# Altium integrated library PLD Supported Devices.IntLib: 344 symbols (part 4 of 6)
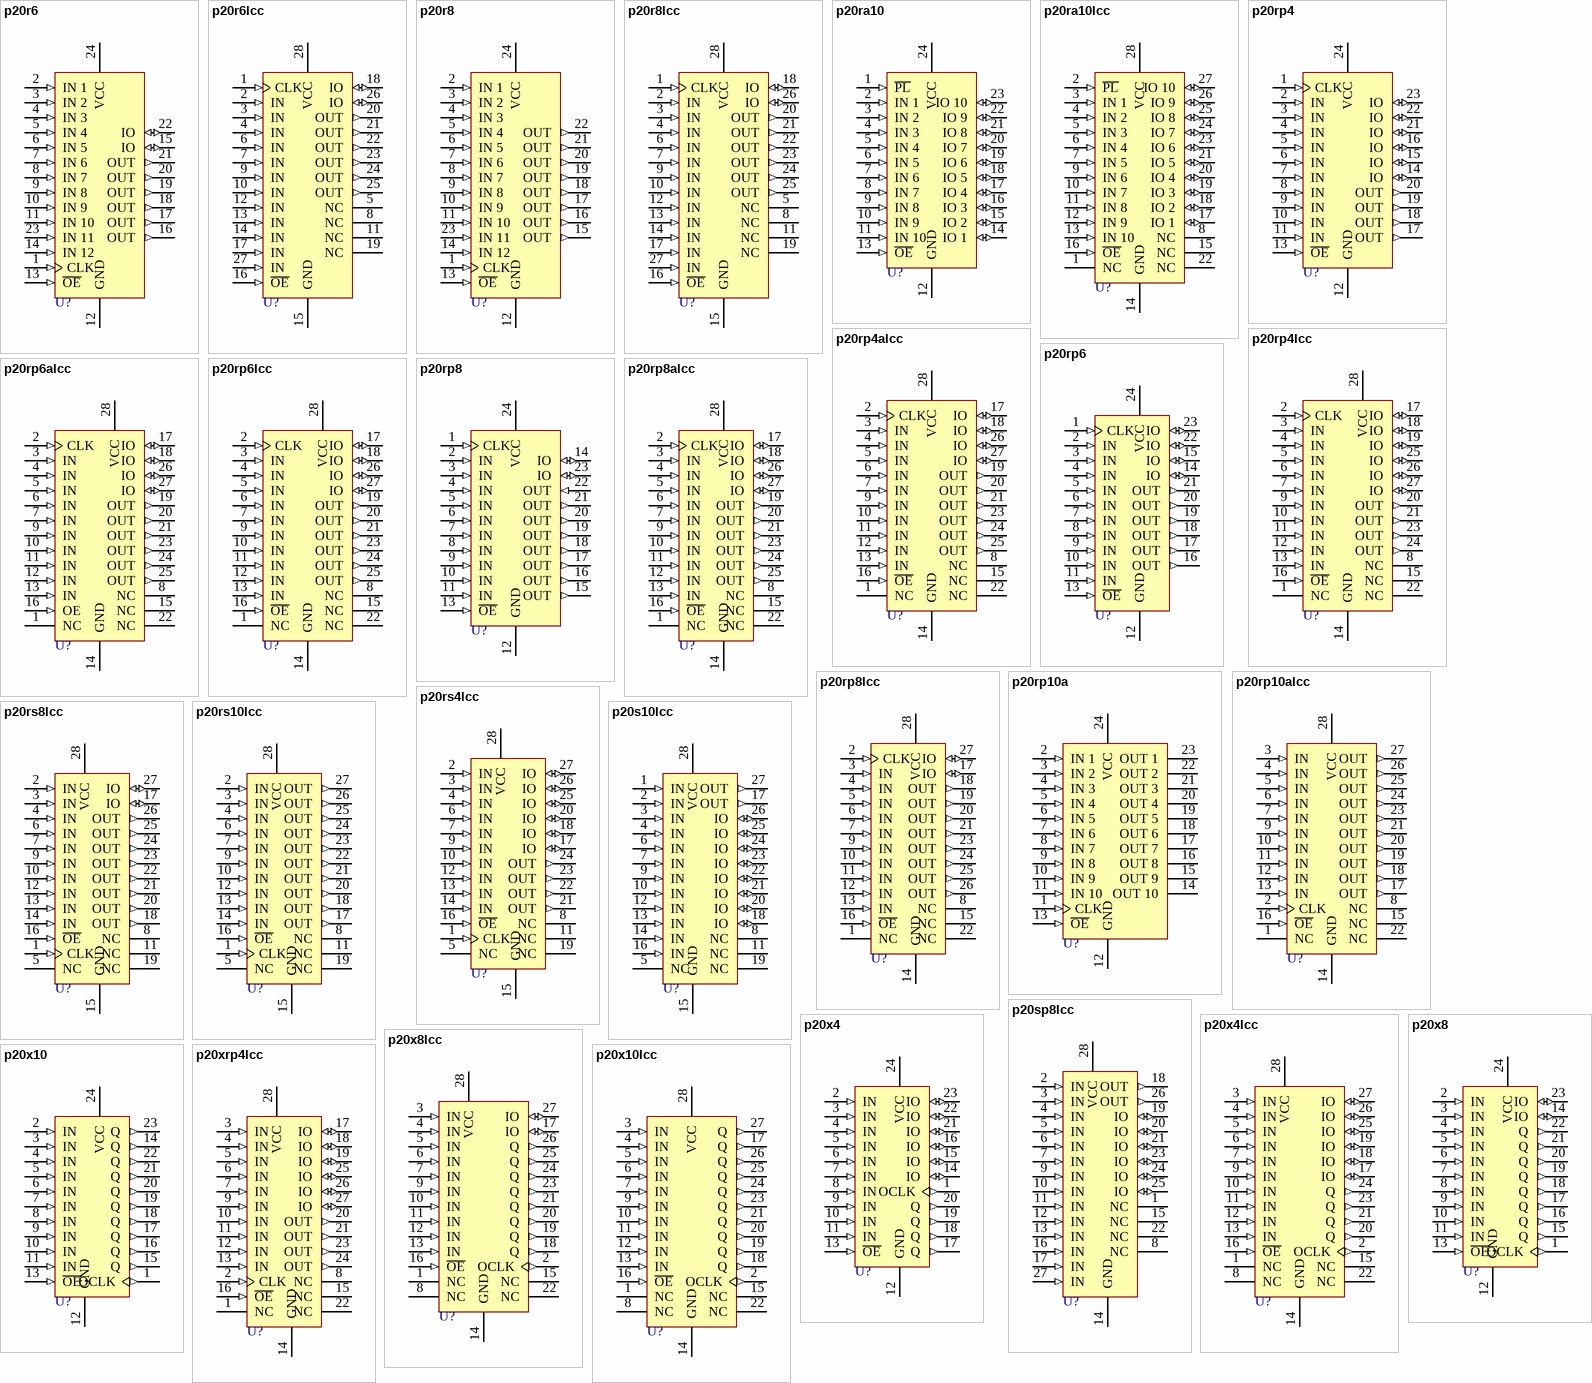
[diagram p21: symbols p20r6 to p20xrp4lcc]

## p20s10lcc
designator U?
Polarity PAL Family; Published: 16-Jul-2002; LatestRevisionDate: 17-Jul-2002; LatestRevisionNote: Re-released for DXP Platform.; Publisher: Altium Limited
pins: 1 IN (in), 2 IN (in), 3 IN (in), 4 IN (in), 5 NC, 6 IN (in), 7 IN (in), 8 NC, 9 IN (in), 10 IN (in), 11 NC, 12 IN (in), 13 IN (in), 14 IN (in), 15 GND (power), 16 IN (in), 17 OUT (out), 18 IO (io), 19 NC, 20 IO (io), 21 IO (io), 22 IO (io), 23 IO (io), 24 IO (io), 25 IO (io), 26 IO (io), 27 OUT (out), 28 VCC (power)

## p20sp8lcc
designator U?
High-Performance Impact PAL Circuits with Product-Term Sharing; Published: 16-Jul-2002; LatestRevisionDate: 17-Jul-2002; LatestRevisionNote: Re-released for DXP Platform.; Publisher: Altium Limited
footprint QCC-J28/X.6
pins: 1 NC, 2 IN (in), 3 IN (in), 4 IN (in), 5 IN (in), 6 IN (in), 7 IN (in), 8 NC, 9 IN (in), 10 IN (in), 11 IN (in), 12 IN (in), 13 IN (in), 14 GND (power), 15 NC, 16 IN (in), 17 IN (in), 18 OUT (out), 19 IO (io), 20 IO (io), 21 IO (io), 22 NC, 23 IO (io), 24 IO (io), 25 IO (io), 26 OUT (out), 27 IN (in), 28 VCC (power)

## p20x4
designator U?
XOR Registered 24-Pin TTL PAL; Published: 16-Jul-2002; LatestRevisionDate: 17-Jul-2002; LatestRevisionNote: Re-released for DXP Platform.; Publisher: Altium Limited
footprint DIP-24/X1.5
pins: 1 OCLK (out), 2 IN (in), 3 IN (in), 4 IN (in), 5 IN (in), 6 IN (in), 7 IN (in), 8 IN (in), 9 IN (in), 10 IN (in), 11 IN (in), 12 GND (power), 13 ~{OE} (in), 14 IO (io), 15 IO (io), 16 IO (io), 17 Q (out), 18 Q (out), 19 Q (out), 20 Q (out), 21 IO (io), 22 IO (io), 23 IO (io), 24 VCC (power)

## p20x4lcc
designator U?
XOR Registered TTL PAL; Published: 16-Jul-2002; LatestRevisionDate: 17-Jul-2002; LatestRevisionNote: Re-released for DXP Platform.; Publisher: Altium Limited
footprint QCC-J28/X.6
pins: 1 NC, 2 OCLK (out), 3 IN (in), 4 IN (in), 5 IN (in), 6 IN (in), 7 IN (in), 8 NC, 9 IN (in), 10 IN (in), 11 IN (in), 12 IN (in), 13 IN (in), 14 GND (power), 15 NC, 16 ~{OE} (in), 17 IO (io), 18 IO (io), 19 IO (io), 20 Q (out), 21 Q (out), 22 NC, 23 Q (out), 24 Q (out), 25 IO (io), 26 IO (io), 27 IO (io), 28 VCC (power)

## p20x8
designator U?
XOR Registered 24-Pin TTL PAL; Published: 16-Jul-2002; LatestRevisionDate: 17-Jul-2002; LatestRevisionNote: Re-released for DXP Platform.; Publisher: Altium Limited
footprint DIP-24/X1.5
pins: 1 OCLK (out), 2 IN (in), 3 IN (in), 4 IN (in), 5 IN (in), 6 IN (in), 7 IN (in), 8 IN (in), 9 IN (in), 10 IN (in), 11 IN (in), 12 GND (power), 13 ~{OE} (in), 14 IO (io), 15 Q (out), 16 Q (out), 17 Q (out), 18 Q (out), 19 Q (out), 20 Q (out), 21 Q (out), 22 Q (out), 23 IO (io), 24 VCC (power)

## p20x8lcc
designator U?
XOR Registered TTL PAL; Published: 16-Jul-2002; LatestRevisionDate: 17-Jul-2002; LatestRevisionNote: Re-released for DXP Platform.; Publisher: Altium Limited
footprint QCC-J28/X.6
pins: 1 NC, 2 OCLK (out), 3 IN (in), 4 IN (in), 5 IN (in), 6 IN (in), 7 IN (in), 8 NC, 9 IN (in), 10 IN (in), 11 IN (in), 12 IN (in), 13 IN (in), 14 GND (power), 15 NC, 16 ~{OE} (in), 17 IO (io), 18 Q (out), 19 Q (out), 20 Q (out), 21 Q (out), 22 NC, 23 Q (out), 24 Q (out), 25 Q (out), 26 Q (out), 27 IO (io), 28 VCC (power)

## p20x10
designator U?
XOR Registered 24-Pin TTL PAL; Published: 16-Jul-2002; LatestRevisionDate: 17-Jul-2002; LatestRevisionNote: Re-released for DXP Platform.; Publisher: Altium Limited
footprint DIP-24/X1.5
pins: 1 OCLK (out), 2 IN (in), 3 IN (in), 4 IN (in), 5 IN (in), 6 IN (in), 7 IN (in), 8 IN (in), 9 IN (in), 10 IN (in), 11 IN (in), 12 GND (power), 13 ~{OE} (in), 14 Q (out), 15 Q (out), 16 Q (out), 17 Q (out), 18 Q (out), 19 Q (out), 20 Q (out), 21 Q (out), 22 Q (out), 23 Q (out), 24 VCC (power)

## p20x10lcc
designator U?
XOR Registered TTL PAL; Published: 16-Jul-2002; LatestRevisionDate: 17-Jul-2002; LatestRevisionNote: Re-released for DXP Platform.; Publisher: Altium Limited
footprint QCC-J28/X.6
pins: 1 NC, 2 OCLK (out), 3 IN (in), 4 IN (in), 5 IN (in), 6 IN (in), 7 IN (in), 8 NC, 9 IN (in), 10 IN (in), 11 IN (in), 12 IN (in), 13 IN (in), 14 GND (power), 15 NC, 16 ~{OE} (in), 17 Q (out), 18 Q (out), 19 Q (out), 20 Q (out), 21 Q (out), 22 NC, 23 Q (out), 24 Q (out), 25 Q (out), 26 Q (out), 27 Q (out), 28 VCC (power)

## p20xrp4lcc
designator U?
24-Pin IMOX Programmable Array Logic; Published: 16-Jul-2002; LatestRevisionDate: 17-Jul-2002; LatestRevisionNote: Re-released for DXP Platform.; Publisher: Altium Limited
pins: 1 NC, 2 CLK (in), 3 IN (in), 4 IN (in), 5 IN (in), 6 IN (in), 7 IN (in), 8 NC, 9 IN (in), 10 IN (in), 11 IN (in), 12 IN (in), 13 IN (in), 14 GND (power), 15 NC, 16 ~{OE} (in), 17 IO (io), 18 IO (io), 19 IO (io), 20 OUT (out), 21 OUT (out), 22 NC, 23 OUT (out), 24 OUT (out), 25 IO (io), 26 IO (io), 27 IO (io), 28 VCC (power)

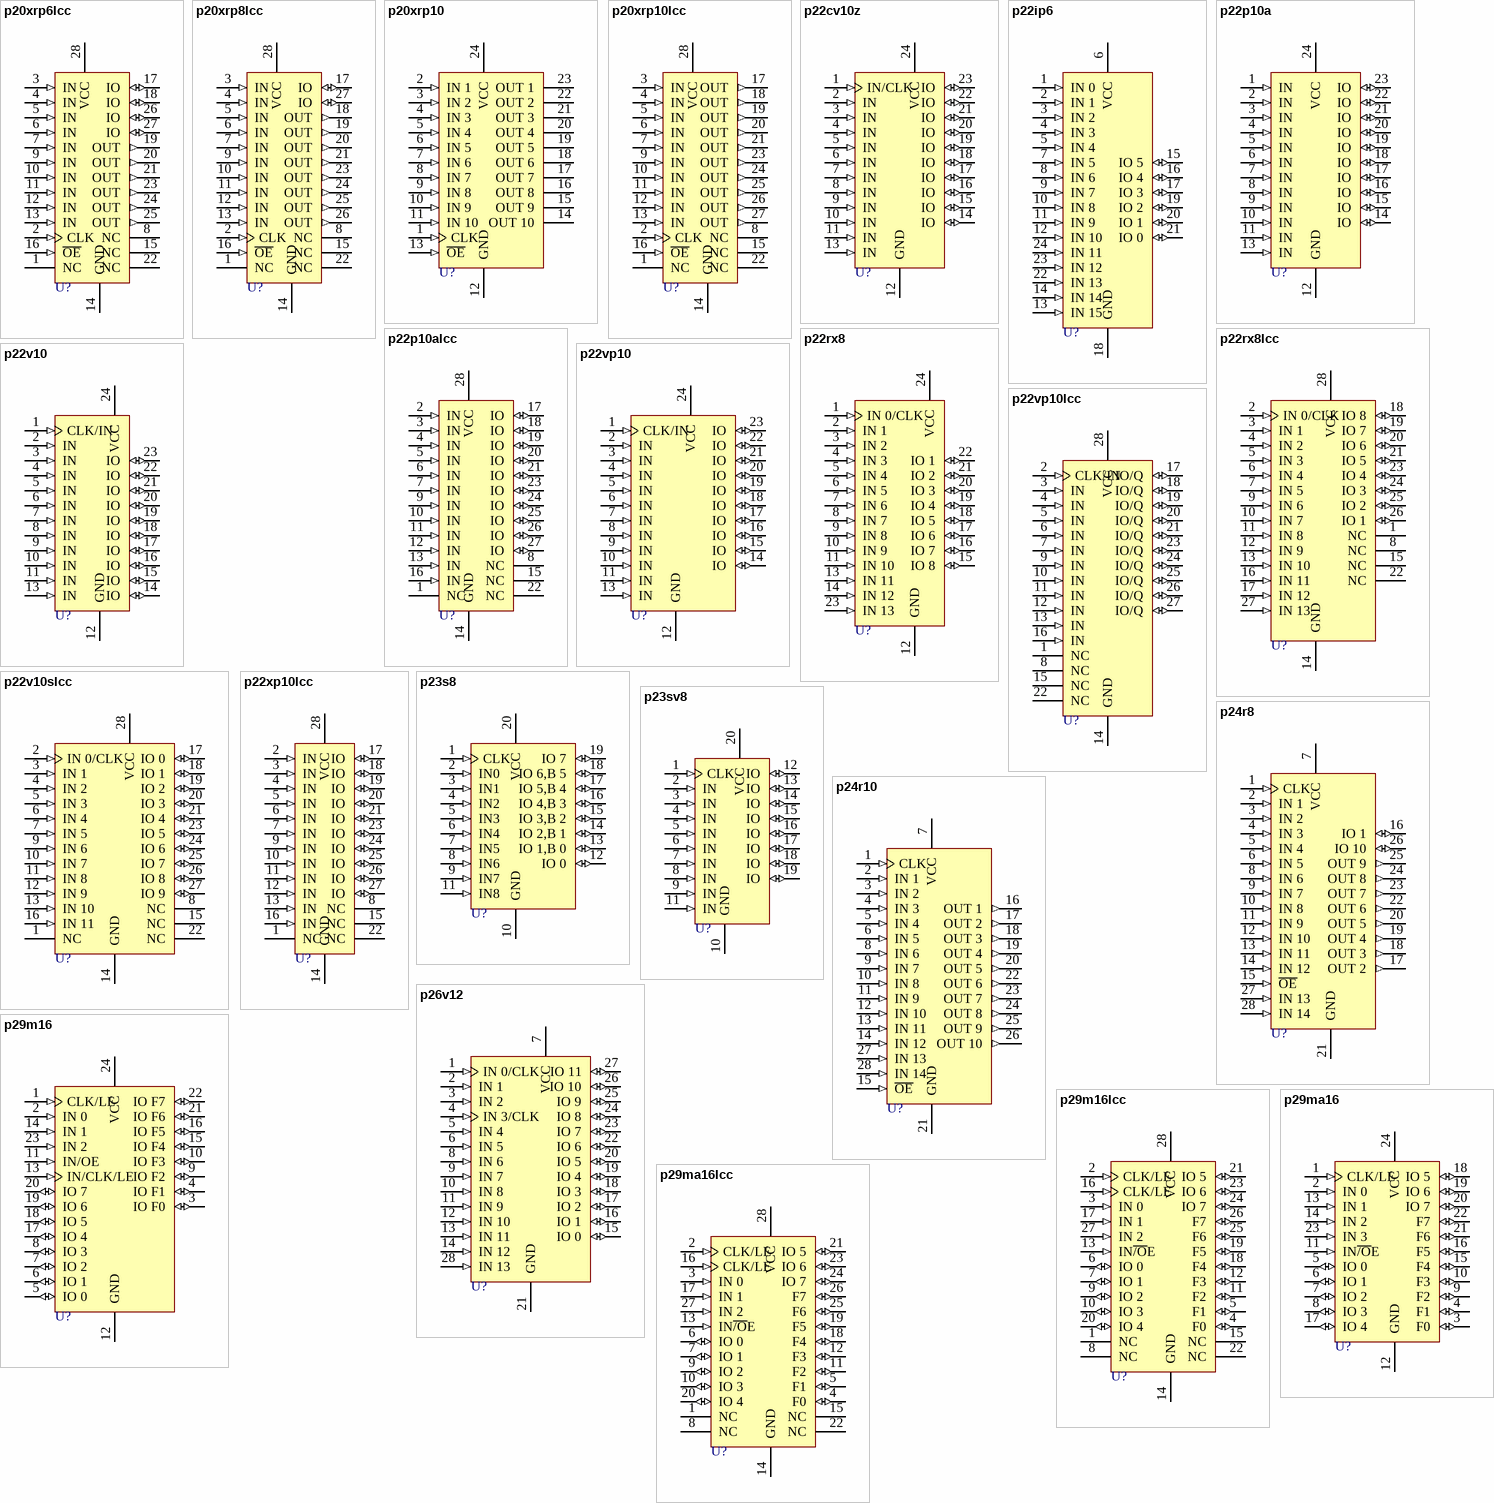
[diagram p11: symbols p20xrp6lcc to p29ma16lcc]

## p20xrp6lcc
designator U?
24-Pin IMOX Programmable Array Logic; Published: 16-Jul-2002; LatestRevisionDate: 17-Jul-2002; LatestRevisionNote: Re-released for DXP Platform.; Publisher: Altium Limited
pins: 1 NC, 2 CLK (in), 3 IN (in), 4 IN (in), 5 IN (in), 6 IN (in), 7 IN (in), 8 NC, 9 IN (in), 10 IN (in), 11 IN (in), 12 IN (in), 13 IN (in), 14 GND (power), 15 NC, 16 ~{OE} (in), 17 IO (io), 18 IO (io), 19 OUT (out), 20 OUT (out), 21 OUT (out), 22 NC, 23 OUT (out), 24 OUT (out), 25 OUT (out), 26 IO (io), 27 IO (io), 28 VCC (power)

## p20xrp8lcc
designator U?
24-Pin IMOX Programmable Array Logic; Published: 16-Jul-2002; LatestRevisionDate: 17-Jul-2002; LatestRevisionNote: Re-released for DXP Platform.; Publisher: Altium Limited
pins: 1 NC, 2 CLK (in), 3 IN (in), 4 IN (in), 5 IN (in), 6 IN (in), 7 IN (in), 8 NC, 9 IN (in), 10 IN (in), 11 IN (in), 12 IN (in), 13 IN (in), 14 GND (power), 15 NC, 16 ~{OE} (in), 17 IO (io), 18 OUT (out), 19 OUT (out), 20 OUT (out), 21 OUT (out), 22 NC, 23 OUT (out), 24 OUT (out), 25 OUT (out), 26 OUT (out), 27 IO (io), 28 VCC (power)

## p20xrp10
designator U?
24-Pin IMOX PAL Elements; Published: 16-Jul-2002; LatestRevisionDate: 17-Jul-2002; LatestRevisionNote: Re-released for DXP Platform.; Publisher: Altium Limited
pins: 1 CLK (in), 2 IN 1 (in), 3 IN 2 (in), 4 IN 3 (in), 5 IN 4 (in), 6 IN 5 (in), 7 IN 6 (in), 8 IN 7 (in), 9 IN 8 (in), 10 IN 9 (in), 11 IN 10 (in), 12 GND (power), 13 ~{OE} (in), 14 OUT 10 (hiz), 15 OUT 9 (hiz), 16 OUT 8 (hiz), 17 OUT 7 (hiz), 18 OUT 6 (hiz), 19 OUT 5 (hiz), 20 OUT 4 (hiz), 21 OUT 3 (hiz), 22 OUT 2 (hiz), 23 OUT 1 (hiz), 24 VCC (power)

## p20xrp10lcc
designator U?
24-Pin IMOX Programmable Array Logic; Published: 16-Jul-2002; LatestRevisionDate: 17-Jul-2002; LatestRevisionNote: Re-released for DXP Platform.; Publisher: Altium Limited
pins: 1 NC, 2 CLK (in), 3 IN (in), 4 IN (in), 5 IN (in), 6 IN (in), 7 IN (in), 8 NC, 9 IN (in), 10 IN (in), 11 IN (in), 12 IN (in), 13 IN (in), 14 GND (power), 15 NC, 16 ~{OE} (in), 17 OUT (out), 18 OUT (out), 19 OUT (out), 20 OUT (out), 21 OUT (out), 22 NC, 23 OUT (out), 24 OUT (out), 25 OUT (out), 26 OUT (out), 27 OUT (out), 28 VCC (power)

## p22cv10z
designator U?
24-Pin TTL Versatile PAL Device; Published: 16-Jul-2002; LatestRevisionDate: 17-Jul-2002; LatestRevisionNote: Re-released for DXP Platform.; Publisher: Altium Limited
footprint DIP-24/X1.5
pins: 1 IN/CLK (in), 2 IN (in), 3 IN (in), 4 IN (in), 5 IN (in), 6 IN (in), 7 IN (in), 8 IN (in), 9 IN (in), 10 IN (in), 11 IN (in), 12 GND (power), 13 IN (in), 14 IO (io), 15 IO (io), 16 IO (io), 17 IO (io), 18 IO (io), 19 IO (io), 20 IO (io), 21 IO (io), 22 IO (io), 23 IO (io), 24 VCC (power)

## p22ip6
designator U?
Interface Protocol Asyn. Cell (IPAC) PAL Device; Published: 16-Jul-2002; LatestRevisionDate: 17-Jul-2002; LatestRevisionNote: Re-released for DXP Platform.; Publisher: Altium Limited
pins: 1 IN 0 (in), 2 IN 1 (in), 3 IN 2 (in), 4 IN 3 (in), 5 IN 4 (in), 6 VCC (power), 7 IN 5 (in), 8 IN 6 (in), 9 IN 7 (in), 10 IN 8 (in), 11 IN 9 (in), 12 IN 10 (in), 13 IN 15 (in), 14 IN 14 (in), 15 IO 5 (io), 16 IO 4 (io), 17 IO 3 (io), 18 GND (power), 19 IO 2 (io), 20 IO 1 (io), 21 IO 0 (io), 22 IN 13 (in), 23 IN 12 (in), 24 IN 11 (in)

## p22p10a
designator U?
24-Pin Combinational TTL PAL; Published: 16-Jul-2002; LatestRevisionDate: 17-Jul-2002; LatestRevisionNote: Re-released for DXP Platform.; Publisher: Altium Limited
pins: 1 IN (in), 2 IN (in), 3 IN (in), 4 IN (in), 5 IN (in), 6 IN (in), 7 IN (in), 8 IN (in), 9 IN (in), 10 IN (in), 11 IN (in), 12 GND (power), 13 IN (in), 14 IO (io), 15 IO (io), 16 IO (io), 17 IO (io), 18 IO (io), 19 IO (io), 20 IO (io), 21 IO (io), 22 IO (io), 23 IO (io), 24 VCC (power)

## p22p10alcc
designator U?
24-Pin Combinational TTL PAL; Published: 16-Jul-2002; LatestRevisionDate: 17-Jul-2002; LatestRevisionNote: Re-released for DXP Platform.; Publisher: Altium Limited
pins: 1 NC, 2 IN (in), 3 IN (in), 4 IN (in), 5 IN (in), 6 IN (in), 7 IN (in), 8 NC, 9 IN (in), 10 IN (in), 11 IN (in), 12 IN (in), 13 IN (in), 14 GND (power), 15 NC, 16 IN (in), 17 IO (io), 18 IO (io), 19 IO (io), 20 IO (io), 21 IO (io), 22 NC, 23 IO (io), 24 IO (io), 25 IO (io), 26 IO (io), 27 IO (io), 28 VCC (power)

## p22rx8
designator U?
High-Speed PAL; Published: 16-Jul-2002; LatestRevisionDate: 17-Jul-2002; LatestRevisionNote: Re-released for DXP Platform.; Publisher: Altium Limited
pins: 1 IN 0/CLK (in), 2 IN 1 (in), 3 IN 2 (in), 4 IN 3 (in), 5 IN 4 (in), 6 IN 5 (in), 7 IN 6 (in), 8 IN 7 (in), 9 IN 8 (in), 10 IN 9 (in), 11 IN 10 (in), 12 GND (power), 13 IN 11 (in), 14 IN 12 (in), 15 IO 8 (io), 16 IO 7 (io), 17 IO 6 (io), 18 IO 5 (io), 19 IO 4 (io), 20 IO 3 (io), 21 IO 2 (io), 22 IO 1 (io), 23 IN 13 (in), 24 VCC (power)

## p22rx8lcc
designator U?
High-Speed Programmable Array Logic; Published: 16-Jul-2002; LatestRevisionDate: 17-Jul-2002; LatestRevisionNote: Re-released for DXP Platform.; Publisher: Altium Limited
pins: 1 NC, 2 IN 0/CLK (in), 3 IN 1 (in), 4 IN 2 (in), 5 IN 3 (in), 6 IN 4 (in), 7 IN 5 (in), 8 NC, 9 IN 6 (in), 10 IN 7 (in), 11 IN 8 (in), 12 IN 9 (in), 13 IN 10 (in), 14 GND (power), 15 NC, 16 IN 11 (in), 17 IN 12 (in), 18 IO 8 (io), 19 IO 7 (io), 20 IO 6 (io), 21 IO 5 (io), 22 NC, 23 IO 4 (io), 24 IO 3 (io), 25 IO 2 (io), 26 IO 1 (io), 27 IN 13 (in), 28 VCC (power)

## p22v10
designator U?
24-Pin TTL Versatile PAL Device; Published: 16-Jul-2002; LatestRevisionDate: 17-Jul-2002; LatestRevisionNote: Re-released for DXP Platform.; Publisher: Altium Limited
footprint DIP-24/X1.5
pins: 1 CLK/IN (in), 2 IN (in), 3 IN (in), 4 IN (in), 5 IN (in), 6 IN (in), 7 IN (in), 8 IN (in), 9 IN (in), 10 IN (in), 11 IN (in), 12 GND (power), 13 IN (in), 14 IO (io), 15 IO (io), 16 IO (io), 17 IO (io), 18 IO (io), 19 IO (io), 20 IO (io), 21 IO (io), 22 IO (io), 23 IO (io), 24 VCC (power)

## p22v10slcc
designator U?
TTL Versatile PAL Device; Published: 16-Jul-2002; LatestRevisionDate: 17-Jul-2002; LatestRevisionNote: Re-released for DXP Platform.; Publisher: Altium Limited
footprint QCC-J28/X.6
pins: 1 NC, 2 IN 0/CLK (in), 3 IN 1 (in), 4 IN 2 (in), 5 IN 3 (in), 6 IN 4 (in), 7 IN 5 (in), 8 NC, 9 IN 6 (in), 10 IN 7 (in), 11 IN 8 (in), 12 IN 9 (in), 13 IN 10 (in), 14 GND (power), 15 NC, 16 IN 11 (in), 17 IO 0 (io), 18 IO 1 (io), 19 IO 2 (io), 20 IO 3 (io), 21 IO 4 (io), 22 NC, 23 IO 5 (io), 24 IO 6 (io), 25 IO 7 (io), 26 IO 8 (io), 27 IO 9 (io), 28 VCC (power)

## p22vp10
designator U?
Programmable Array Logic Device; Published: 16-Jul-2002; LatestRevisionDate: 17-Jul-2002; LatestRevisionNote: Re-released for DXP Platform.; Publisher: Altium Limited
pins: 1 CLK/IN (in), 2 IN (in), 3 IN (in), 4 IN (in), 5 IN (in), 6 IN (in), 7 IN (in), 8 IN (in), 9 IN (in), 10 IN (in), 11 IN (in), 12 GND (power), 13 IN (in), 14 IO (io), 15 IO (io), 16 IO (io), 17 IO (io), 18 IO (io), 19 IO (io), 20 IO (io), 21 IO (io), 22 IO (io), 23 IO (io), 24 VCC (power)

## p22vp10lcc
designator U?
High-Performance Impact-X Programmable Array Logic Circuits; Published: 16-Jul-2002; LatestRevisionDate: 17-Jul-2002; LatestRevisionNote: Re-released for DXP Platform.; Publisher: Altium Limited
footprint QCC-J28/X.6
pins: 1 NC, 2 CLK/IN (in), 3 IN (in), 4 IN (in), 5 IN (in), 6 IN (in), 7 IN (in), 8 NC, 9 IN (in), 10 IN (in), 11 IN (in), 12 IN (in), 13 IN (in), 14 GND (power), 15 NC, 16 IN (in), 17 IO/Q (io), 18 IO/Q (io), 19 IO/Q (io), 20 IO/Q (io), 21 IO/Q (io), 22 NC, 23 IO/Q (io), 24 IO/Q (io), 25 IO/Q (io), 26 IO/Q (io), 27 IO/Q (io), 28 VCC (power)

## p22xp10lcc
designator U?
24-Pin IMOX Programmable Array Logic; Published: 16-Jul-2002; LatestRevisionDate: 17-Jul-2002; LatestRevisionNote: Re-released for DXP Platform.; Publisher: Altium Limited
pins: 1 NC, 2 IN (in), 3 IN (in), 4 IN (in), 5 IN (in), 6 IN (in), 7 IN (in), 8 NC, 9 IN (in), 10 IN (in), 11 IN (in), 12 IN (in), 13 IN (in), 14 GND (power), 15 NC, 16 IN (in), 17 IO (io), 18 IO (io), 19 IO (io), 20 IO (io), 21 IO (io), 22 NC, 23 IO (io), 24 IO (io), 25 IO (io), 26 IO (io), 27 IO (io), 28 VCC (power)

## p23s8
designator U?
20-Pin PAL Device-Based Sequencer; Published: 16-Jul-2002; LatestRevisionDate: 17-Jul-2002; LatestRevisionNote: Re-released for DXP Platform.; Publisher: Altium Limited
pins: 1 CLK (in), 2 IN0 (in), 3 IN1 (in), 4 IN2 (in), 5 IN3 (in), 6 IN4 (in), 7 IN5 (in), 8 IN6 (in), 9 IN7 (in), 10 GND (power), 11 IN8 (in), 12 IO 0 (io), 13 IO 1,B 0 (io), 14 IO 2,B 1 (io), 15 IO 3,B 2 (io), 16 IO 4,B 3 (io), 17 IO 5,B 4 (io), 18 IO 6,B 5 (io), 19 IO 7 (io), 20 VCC (power)

## p23sv8
designator U?
High-Performance Logic Device Gallium Arsenide; Published: 16-Jul-2002; LatestRevisionDate: 17-Jul-2002; LatestRevisionNote: Re-released for DXP Platform.; Publisher: Altium Limited
pins: 1 CLK (in), 2 IN (in), 3 IN (in), 4 IN (in), 5 IN (in), 6 IN (in), 7 IN (in), 8 IN (in), 9 IN (in), 10 GND (power), 11 IN (in), 12 IO (io), 13 IO (io), 14 IO (io), 15 IO (io), 16 IO (io), 17 IO (io), 18 IO (io), 19 IO (io), 20 VCC (power)

## p24r8
designator U?
10ns 28-Pin TTL PAL; Published: 16-Jul-2002; LatestRevisionDate: 17-Jul-2002; LatestRevisionNote: Re-released for DXP Platform.; Publisher: Altium Limited
pins: 1 CLK (in), 2 IN 1 (in), 3 IN 2 (in), 4 IN 3 (in), 5 IN 4 (in), 6 IN 5 (in), 7 VCC (power), 8 IN 6 (in), 9 IN 7 (in), 10 IN 8 (in), 11 IN 9 (in), 12 IN 10 (in), 13 IN 11 (in), 14 IN 12 (in), 15 ~{OE} (in), 16 IO 1 (io), 17 OUT 2 (out), 18 OUT 3 (out), 19 OUT 4 (out), 20 OUT 5 (out), 21 GND (power), 22 OUT 6 (out), 23 OUT 7 (out), 24 OUT 8 (out), 25 OUT 9 (out), 26 IO 10 (io), 27 IN 13 (in), 28 IN 14 (in)

## p24r10
designator U?
10ns 28-Pin TTL Programmable Array Logic; Published: 16-Jul-2002; LatestRevisionDate: 17-Jul-2002; LatestRevisionNote: Re-released for DXP Platform.; Publisher: Altium Limited
pins: 1 CLK (in), 2 IN 1 (in), 3 IN 2 (in), 4 IN 3 (in), 5 IN 4 (in), 6 IN 5 (in), 7 VCC (power), 8 IN 6 (in), 9 IN 7 (in), 10 IN 8 (in), 11 IN 9 (in), 12 IN 10 (in), 13 IN 11 (in), 14 IN 12 (in), 15 ~{OE} (in), 16 OUT 1 (out), 17 OUT 2 (out), 18 OUT 3 (out), 19 OUT 4 (out), 20 OUT 5 (out), 21 GND (power), 22 OUT 6 (out), 23 OUT 7 (out), 24 OUT 8 (out), 25 OUT 9 (out), 26 OUT 10 (out), 27 IN 13 (in), 28 IN 14 (in)

## p26v12
designator U?
28-Pin EE CMOS Versatile PAL Device; Published: 16-Jul-2002; LatestRevisionDate: 17-Jul-2002; LatestRevisionNote: Re-released for DXP Platform.; Publisher: Altium Limited
footprint QCC-J28/X.6
pins: 1 IN 0/CLK (in), 2 IN 1 (in), 3 IN 2 (in), 4 IN 3/CLK (in), 5 IN 4 (in), 6 IN 5 (in), 7 VCC (power), 8 IN 6 (in), 9 IN 7 (in), 10 IN 8 (in), 11 IN 9 (in), 12 IN 10 (in), 13 IN 11 (in), 14 IN 12 (in), 15 IO 0 (io), 16 IO 1 (io), 17 IO 2 (io), 18 IO 3 (io), 19 IO 4 (io), 20 IO 5 (io), 21 GND (power), 22 IO 6 (io), 23 IO 7 (io), 24 IO 8 (io), 25 IO 9 (io), 26 IO 10 (io), 27 IO 11 (io), 28 IN 13 (in)

## p29m16
designator U?
24-Pin EE CMOS (PAL); Published: 16-Jul-2002; LatestRevisionDate: 17-Jul-2002; LatestRevisionNote: Re-released for DXP Platform.; Publisher: Altium Limited
footprint DIP-24/X1.5
pins: 1 CLK/LE (in), 2 IN 0 (in), 3 IO F0 (io), 4 IO F1 (io), 5 IO 0 (io), 6 IO 1 (io), 7 IO 2 (io), 8 IO 3 (io), 9 IO F2 (io), 10 IO F3 (io), 11 IN/OE (in), 12 GND (power), 13 IN/CLK/LE (in), 14 IN 1 (in), 15 IO F4 (io), 16 IO F5 (io), 17 IO 4 (io), 18 IO 5 (io), 19 IO 6 (io), 20 IO 7 (io), 21 IO F6 (io), 22 IO F7 (io), 23 IN 2 (in), 24 VCC (power)

## p29m16lcc
designator U?
EE CMOS PAL; Published: 16-Jul-2002; LatestRevisionDate: 17-Jul-2002; LatestRevisionNote: Re-released for DXP Platform.; Publisher: Altium Limited
footprint QCC-J28/X.6
pins: 1 NC, 2 CLK/LE (in), 3 IN 0 (in), 4 F0 (io), 5 F1 (io), 6 IO 0 (io), 7 IO 1 (io), 8 NC, 9 IO 2 (io), 10 IO 3 (io), 11 F2 (io), 12 F3 (io), 13 IN~{/O}E (in), 14 GND (power), 15 NC, 16 CLK/LE (in), 17 IN 1 (in), 18 F4 (io), 19 F5 (io), 20 IO 4 (io), 21 IO 5 (io), 22 NC, 23 IO 6 (io), 24 IO 7 (io), 25 F6 (io), 26 F7 (io), 27 IN 2 (in), 28 VCC (power)

## p29ma16
designator U?
24-Pin EE CMOS PAL; Published: 16-Jul-2002; LatestRevisionDate: 17-Jul-2002; LatestRevisionNote: Re-released for DXP Platform.; Publisher: Altium Limited
footprint DIP-24/X1.5
pins: 1 CLK/LE (in), 2 IN 0 (in), 3 F0 (io), 4 F1 (io), 5 IO 0 (io), 6 IO 1 (io), 7 IO 2 (io), 8 IO 3 (io), 9 F2 (io), 10 F3 (io), 11 IN~{/O}E (in), 12 GND (power), 13 IN 1 (in), 14 IN 2 (in), 15 F4 (io), 16 F5 (io), 17 IO 4 (io), 18 IO 5 (io), 19 IO 6 (io), 20 IO 7 (io), 21 F6 (io), 22 F7 (io), 23 IN 3 (in), 24 VCC (power)

## p29ma16lcc
designator U?
EE CMOS PAL; Published: 16-Jul-2002; LatestRevisionDate: 17-Jul-2002; LatestRevisionNote: Re-released for DXP Platform.; Publisher: Altium Limited
footprint QCC-J28/X.6
pins: 1 NC, 2 CLK/LE (in), 3 IN 0 (in), 4 F0 (io), 5 F1 (io), 6 IO 0 (io), 7 IO 1 (io), 8 NC, 9 IO 2 (io), 10 IO 3 (io), 11 F2 (io), 12 F3 (io), 13 IN~{/O}E (in), 14 GND (power), 15 NC, 16 CLK/LE (in), 17 IN 1 (in), 18 F4 (io), 19 F5 (io), 20 IO 4 (io), 21 IO 5 (io), 22 NC, 23 IO 6 (io), 24 IO 7 (io), 25 F6 (io), 26 F7 (io), 27 IN 2 (in), 28 VCC (power)

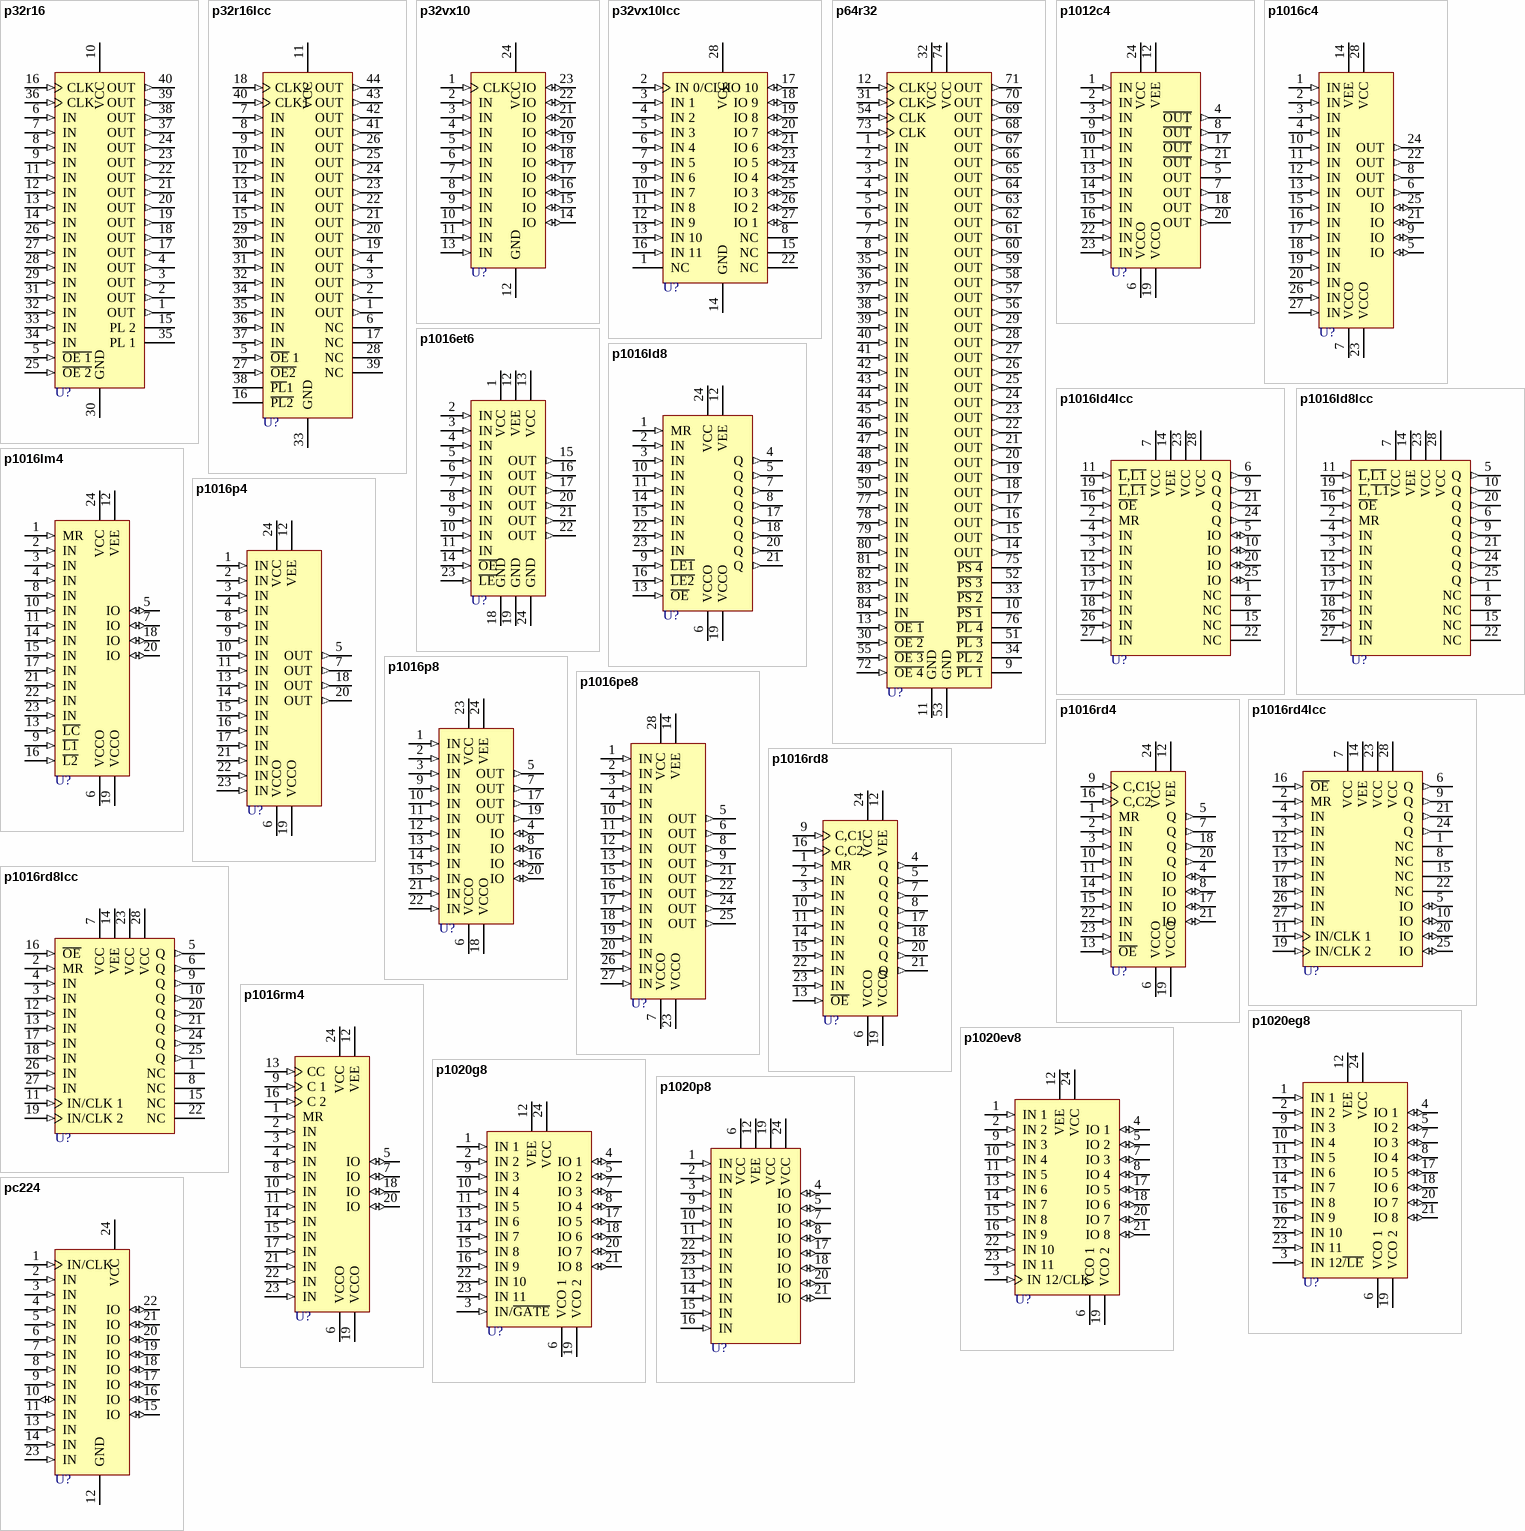
[diagram p12: symbols p32r16 to pc224]

## p32r16
designator U?
High-Density Programmable Logic MEGAPAL Device; Published: 16-Jul-2002; LatestRevisionDate: 17-Jul-2002; LatestRevisionNote: Re-released for DXP Platform.; Publisher: Altium Limited
pins: 1 OUT (out), 2 OUT (out), 3 OUT (out), 4 OUT (out), 5 ~{OE 1} (in), 6 IN (in), 7 IN (in), 8 IN (in), 9 IN (in), 10 VCC (power), 11 IN (in), 12 IN (in), 13 IN (in), 14 IN (in), 15 PL 2, 16 CLK (in), 17 OUT (out), 18 OUT (out), 19 OUT (out), 20 OUT (out), 21 OUT (out), 22 OUT (out), 23 OUT (out), 24 OUT (out), 25 ~{OE 2} (in), 26 IN (in), 27 IN (in), 28 IN (in), 29 IN (in), 30 GND (power), 31 IN (in), 32 IN (in), 33 IN (in), 34 IN (in), 35 PL 1, 36 CLK (in), 37 OUT (out), 38 OUT (out), 39 OUT (out), 40 OUT (out)

## p32r16lcc
designator U?
High-Density Programmable Logic MEGAPAL Device; Published: 16-Jul-2002; LatestRevisionDate: 17-Jul-2002; LatestRevisionNote: Re-released for DXP Platform.; Publisher: Altium Limited
footprint QCC-J44
pins: 1 OUT (out), 2 OUT (out), 3 OUT (out), 4 OUT (out), 5 ~{OE} 1 (in), 6 NC, 7 IN (in), 8 IN (in), 9 IN (in), 10 IN (in), 11 VCC (power), 12 IN (in), 13 IN (in), 14 IN (in), 15 IN (in), 16 ~{PL2}, 17 NC, 18 CLK2 (in), 19 OUT (out), 20 OUT (out), 21 OUT (out), 22 OUT (out), 23 OUT (out), 24 OUT (out), 25 OUT (out), 26 OUT (out), 27 ~{OE2} (in), 28 NC, 29 IN (in), 30 IN (in), 31 IN (in), 32 IN (in), 33 GND (power), 34 IN (in), 35 IN (in), 36 IN (in), 37 IN (in), 38 ~{PL}1, 39 NC, 40 CLK1 (in), 41 OUT (out), 42 OUT (out), 43 OUT (out), 44 OUT (out)

## p32vx10
designator U?
24-Pin Versatile with XOR PAL; Published: 16-Jul-2002; LatestRevisionDate: 17-Jul-2002; LatestRevisionNote: Re-released for DXP Platform.; Publisher: Altium Limited
pins: 1 CLK (in), 2 IN (in), 3 IN (in), 4 IN (in), 5 IN (in), 6 IN (in), 7 IN (in), 8 IN (in), 9 IN (in), 10 IN (in), 11 IN (in), 12 GND (power), 13 IN (in), 14 IO (io), 15 IO (io), 16 IO (io), 17 IO (io), 18 IO (io), 19 IO (io), 20 IO (io), 21 IO (io), 22 IO (io), 23 IO (io), 24 VCC (power)

## p32vx10lcc
designator U?
24-Pin Versatile with XOR Programmable Array Logic; Published: 16-Jul-2002; LatestRevisionDate: 17-Jul-2002; LatestRevisionNote: Re-released for DXP Platform.; Publisher: Altium Limited
pins: 1 NC, 2 IN 0/CLK (in), 3 IN 1 (in), 4 IN 2 (in), 5 IN 3 (in), 6 IN 4 (in), 7 IN 5 (in), 8 NC, 9 IN 6 (in), 10 IN 7 (in), 11 IN 8 (in), 12 IN 9 (in), 13 IN 10 (in), 14 GND (power), 15 NC, 16 IN 11 (in), 17 IO 10 (io), 18 IO 9 (io), 19 IO 8 (io), 20 IO 7 (io), 21 IO 6 (io), 22 NC, 23 IO 5 (io), 24 IO 4 (io), 25 IO 3 (io), 26 IO 2 (io), 27 IO 1 (io), 28 VCC (power)

## p64r32
designator U?
High-Density Programmable Logic Mega PAL Device; Published: 16-Jul-2002; LatestRevisionDate: 17-Jul-2002; LatestRevisionNote: Re-released for DXP Platform.; Publisher: Altium Limited
pins: 1 IN (in), 2 IN (in), 3 IN (in), 4 IN (in), 5 IN (in), 6 IN (in), 7 IN (in), 8 IN (in), 9 ~{PL 1}, 10 ~{PS 1}, 11 GND (power), 12 CLK (in), 13 ~{OE 1} (in), 14 OUT (out), 15 OUT (out), 16 OUT (out), 17 OUT (out), 18 OUT (out), 19 OUT (out), 20 OUT (out), 21 OUT (out), 22 OUT (out), 23 OUT (out), 24 OUT (out), 25 OUT (out), 26 OUT (out), 27 OUT (out), 28 OUT (out), 29 OUT (out), 30 ~{OE 2} (in), 31 CLK (in), 32 VCC (power), 33 ~{PS 2}, 34 ~{PL 2}, 35 IN (in), 36 IN (in), 37 IN (in), 38 IN (in), 39 IN (in), 40 IN (in), 41 IN (in), 42 IN (in), 43 IN (in), 44 IN (in), 45 IN (in), 46 IN (in), 47 IN (in), 48 IN (in), 49 IN (in), 50 IN (in), 51 ~{PL 3}, 52 ~{PS 3}, 53 GND (power), 54 CLK (in), 55 ~{OE 3} (in), 56 OUT (out), 57 OUT (out), 58 OUT (out), 59 OUT (out), 60 OUT (out), 61 OUT (out), 62 OUT (out), 63 OUT (out), 64 OUT (out), 65 OUT (out), 66 OUT (out), 67 OUT (out), 68 OUT (out), 69 OUT (out), 70 OUT (out), 71 OUT (out), 72 ~{OE 4} (in), 73 CLK (in), 74 VCC (power), 75 ~{PS 4}, 76 ~{PL 4}, 77 IN (in), 78 IN (in), 79 IN (in), 80 IN (in), 81 IN (in), 82 IN (in), 83 IN (in), 84 IN (in)

## p1012c4
designator U?
4ns ECL Programmable Array Logic; Published: 16-Jul-2002; LatestRevisionDate: 17-Jul-2002; LatestRevisionNote: Re-released for DXP Platform.; Publisher: Altium Limited
footprint DIP-24/X1.5
pins: 1 IN (in), 2 IN (in), 3 IN (in), 4 ~{OUT} (out), 5 OUT (power), 6 VCCO (power), 7 OUT (out), 8 ~{OUT} (out), 9 IN (in), 10 IN (in), 11 IN (in), 12 VEE (power), 13 IN (in), 14 IN (in), 15 IN (in), 16 IN (in), 17 ~{OUT} (out), 18 OUT (out), 19 VCCO (power), 20 OUT (out), 21 ~{OUT} (out), 22 IN (in), 23 IN (in), 24 VCC (power)

## p1016c4
designator U?
2ns ECL Aspect Programmable Array Logic; Published: 16-Jul-2002; LatestRevisionDate: 17-Jul-2002; LatestRevisionNote: Re-released for DXP Platform.; Publisher: Altium Limited
footprint DIP-28/D38.1
pins: 1 IN (in), 2 IN (in), 3 IN (in), 4 IN (in), 5 IO (io), 6 OUT (out), 7 VCCO (power), 8 OUT (out), 9 IO (io), 10 IN (in), 11 IN (in), 12 IN (in), 13 IN (in), 14 VEE (power), 15 IN (in), 16 IN (in), 17 IN (in), 18 IN (in), 19 IN (in), 20 IN (in), 21 IO (io), 22 OUT (out), 23 VCCO (power), 24 OUT (out), 25 IO (io), 26 IN (in), 27 IN (in), 28 VCC (power)

## p1016et6
designator U?
ECL-To-TTL Impact-X PAL Translator Circuit; Published: 16-Jul-2002; LatestRevisionDate: 17-Jul-2002; LatestRevisionNote: Re-released for DXP Platform.; Publisher: Altium Limited
footprint DIP-24/X1.5
pins: 1 VCC (power), 2 IN (in), 3 IN (in), 4 IN (in), 5 IN (in), 6 IN (in), 7 IN (in), 8 IN (in), 9 IN (in), 10 IN (in), 11 IN (in), 12 VEE (power), 13 VCC (power), 14 ~{OE} (in), 15 OUT (out), 16 OUT (out), 17 OUT (out), 18 GND (power), 19 GND (power), 20 OUT (out), 21 OUT (out), 22 OUT (out), 23 ~{LE} (in), 24 GND (power)

## p1016ld4lcc
designator U?
ECL Registered and Latched Programmable Array Logic; Published: 16-Jul-2002; LatestRevisionDate: 17-Jul-2002; LatestRevisionNote: Re-released for DXP Platform.; Publisher: Altium Limited
footprint QCC-J28/X.6
pins: 1 NC, 2 MR (in), 3 IN (in), 4 IN (in), 5 IO (io), 6 Q (out), 7 VCC (power), 8 NC, 9 Q (out), 10 IO (io), 11 ~{L},~{L1} (in), 12 IN (in), 13 IN (in), 14 VEE (power), 15 NC, 16 ~{OE} (in), 17 IN (in), 18 IN (in), 19 ~{L},~{L1} (in), 20 IO (io), 21 Q (out), 22 NC, 23 VCC (power), 24 Q (out), 25 IO (io), 26 IN (in), 27 IN (in), 28 VCC (power)

## p1016ld8
designator U?
ECL Registered and Latched Programmable Array Logic (Logic) Family; Published: 16-Jul-2002; LatestRevisionDate: 17-Jul-2002; LatestRevisionNote: Re-released for DXP Platform.; Publisher: Altium Limited
footprint DIP-24/X1.5
pins: 1 MR (in), 2 IN (in), 3 IN (in), 4 Q (out), 5 Q (out), 6 VCCO (power), 7 Q (out), 8 Q (out), 9 ~{LE1} (in), 10 IN (in), 11 IN (in), 12 VEE (power), 13 ~{OE} (in), 14 IN (in), 15 IN (in), 16 ~{LE2} (in), 17 Q (out), 18 Q (out), 19 VCCO (power), 20 Q (out), 21 Q (out), 22 IN (in), 23 IN (in), 24 VCC (power)

## p1016ld8lcc
designator U?
ECL Registered and Latched Programmable Array Logic; Published: 16-Jul-2002; LatestRevisionDate: 17-Jul-2002; LatestRevisionNote: Re-released for DXP Platform.; Publisher: Altium Limited
footprint QCC-J28/X.6
pins: 1 NC, 2 MR (in), 3 IN (in), 4 IN (in), 5 Q (out), 6 Q (out), 7 VCC (power), 8 NC, 9 Q (out), 10 Q (out), 11 ~{L},~{L1} (in), 12 IN (in), 13 IN (in), 14 VEE (power), 15 NC, 16 ~{OE} (in), 17 IN (in), 18 IN (in), 19 ~{L},~{ L1} (in), 20 Q (out), 21 Q (out), 22 NC, 23 VCC (power), 24 Q (out), 25 Q (out), 26 IN (in), 27 IN (in), 28 VCC (power)

## p1016lm4
designator U?
ECL Programmable Array Logic; Published: 16-Jul-2002; LatestRevisionDate: 17-Jul-2002; LatestRevisionNote: Re-released for DXP Platform.; Publisher: Altium Limited
footprint DIP-24/X1.5
pins: 1 MR (in), 2 IN (in), 3 IN (in), 4 IN (in), 5 IO (io), 6 VCCO (power), 7 IO (io), 8 IN (in), 9 ~{L1} (in), 10 IN (in), 11 IN (in), 12 VEE (power), 13 ~{LC} (in), 14 IN (in), 15 IN (in), 16 ~{L2} (in), 17 IN (in), 18 IO (io), 19 VCCO (power), 20 IO (io), 21 IN (in), 22 IN (in), 23 IN (in), 24 VCC (power)

## p1016p4
designator U?
4ns ECL Programmable Array Logic; Published: 16-Jul-2002; LatestRevisionDate: 17-Jul-2002; LatestRevisionNote: Re-released for DXP Platform.; Publisher: Altium Limited
footprint DIP-24/X1.5
pins: 1 IN (in), 2 IN (in), 3 IN (in), 4 IN (in), 5 OUT (out), 6 VCCO (power), 7 OUT (out), 8 IN (in), 9 IN (in), 10 IN (in), 11 IN (in), 12 VEE (power), 13 IN (in), 14 IN (in), 15 IN (in), 16 IN (in), 17 IN (in), 18 OUT (out), 19 VCCO (power), 20 OUT (out), 21 IN (in), 22 IN (in), 23 IN (in), 24 VCC (power)

## p1016p8
designator U?
ECL Programmable Array Logic; Published: 16-Jul-2002; LatestRevisionDate: 17-Jul-2002; LatestRevisionNote: Re-released for DXP Platform.; Publisher: Altium Limited
footprint DIP-24/X1.5
pins: 1 IN (in), 2 IN (in), 3 IN (in), 4 IO (io), 5 OUT (out), 6 VCCO (power), 7 OUT (out), 8 IO (io), 9 IN (in), 10 IN (in), 11 IN (in), 12 IN (in), 13 IN (in), 14 IN (in), 15 IN (in), 16 IO (io), 17 OUT (out), 18 VCCO (power), 19 OUT (out), 20 IO (io), 21 IN (in), 22 IN (in), 23 VCC (power), 24 VEE (power)

## p1016pe8
designator U?
3ns ECL Aspect Programmable Array Logic; Published: 16-Jul-2002; LatestRevisionDate: 17-Jul-2002; LatestRevisionNote: Re-released for DXP Platform.; Publisher: Altium Limited
footprint DIP-28/D38.1
pins: 1 IN (in), 2 IN (in), 3 IN (in), 4 IN (in), 5 OUT (out), 6 OUT (out), 7 VCCO (power), 8 OUT (out), 9 OUT (out), 10 IN (in), 11 IN (in), 12 IN (in), 13 IN (in), 14 VEE (power), 15 IN (in), 16 IN (in), 17 IN (in), 18 IN (in), 19 IN (in), 20 IN (in), 21 OUT (out), 22 OUT (out), 23 VCCO (power), 24 OUT (out), 25 OUT (out), 26 IN (in), 27 IN (in), 28 VCC (power)

## p1016rd4
designator U?
ECL Regisrered and Latched Programmable Array Logic (PAL) Family; Published: 16-Jul-2002; LatestRevisionDate: 17-Jul-2002; LatestRevisionNote: Re-released for DXP Platform.; Publisher: Altium Limited
footprint DIP-24/X1.5
pins: 1 MR (in), 2 IN (in), 3 IN (in), 4 IO (io), 5 Q (out), 6 VCCO (power), 7 Q (out), 8 IO (io), 9 C,C1 (in), 10 IN (in), 11 IN (in), 12 VEE (power), 13 ~{OE} (in), 14 IN (in), 15 IN (in), 16 C,C2 (in), 17 IO (io), 18 Q (out), 19 VCCO (power), 20 Q (out), 21 IO (io), 22 IN (in), 23 IN (in), 24 VCC (power)

## p1016rd4lcc
designator U?
ECL Registered and Latched Programmable Array Logic; Published: 16-Jul-2002; LatestRevisionDate: 17-Jul-2002; LatestRevisionNote: Re-released for DXP Platform.; Publisher: Altium Limited
footprint QCC-J28/X.6
pins: 1 NC, 2 MR (in), 3 IN (in), 4 IN (in), 5 IO (io), 6 Q (out), 7 VCC (power), 8 NC, 9 Q (out), 10 IO (io), 11 IN/CLK 1 (in), 12 IN (in), 13 IN (in), 14 VEE (power), 15 NC, 16 ~{OE} (in), 17 IN (in), 18 IN (in), 19 IN/CLK 2 (in), 20 IO (io), 21 Q (out), 22 NC, 23 VCC (power), 24 Q (out), 25 IO (io), 26 IN (in), 27 IN (in), 28 VCC (power)

## p1016rd8
designator U?
ECL Registered and Latched Programmable Array Logic (PAL) Family; Published: 16-Jul-2002; LatestRevisionDate: 17-Jul-2002; LatestRevisionNote: Re-released for DXP Platform.; Publisher: Altium Limited
footprint DIP-24/X1.5
pins: 1 MR (in), 2 IN (in), 3 IN (in), 4 Q (out), 5 Q (out), 6 VCCO (power), 7 Q (out), 8 Q (out), 9 C,C1 (in), 10 IN (in), 11 IN (in), 12 VEE (power), 13 ~{OE} (in), 14 IN (in), 15 IN (in), 16 C,C2 (in), 17 Q (out), 18 Q (out), 19 VCCO (power), 20 Q (out), 21 Q (out), 22 IN (in), 23 IN (in), 24 VCC (power)

## p1016rd8lcc
designator U?
ECL Registered and Latched Programmable Array Logic; Published: 16-Jul-2002; LatestRevisionDate: 17-Jul-2002; LatestRevisionNote: Re-released for DXP Platform.; Publisher: Altium Limited
footprint QCC-J28/X.6
pins: 1 NC, 2 MR (in), 3 IN (in), 4 IN (in), 5 Q (out), 6 Q (out), 7 VCC (power), 8 NC, 9 Q (out), 10 Q (out), 11 IN/CLK 1 (in), 12 IN (in), 13 IN (in), 14 VEE (power), 15 NC, 16 ~{OE} (in), 17 IN (in), 18 IN (in), 19 IN/CLK 2 (in), 20 Q (out), 21 Q (out), 22 NC, 23 VCC (power), 24 Q (out), 25 Q (out), 26 IN (in), 27 IN (in), 28 VCC (power)

## p1016rm4
designator U?
ECL Programmable Array Logic; Published: 16-Jul-2002; LatestRevisionDate: 17-Jul-2002; LatestRevisionNote: Re-released for DXP Platform.; Publisher: Altium Limited
footprint DIP-24/X1.5
pins: 1 MR (in), 2 IN (in), 3 IN (in), 4 IN (in), 5 IO (io), 6 VCCO (power), 7 IO (io), 8 IN (in), 9 C 1 (in), 10 IN (in), 11 IN (in), 12 VEE (power), 13 CC (in), 14 IN (in), 15 IN (in), 16 C 2 (in), 17 IN (in), 18 IO (io), 19 VCCO (power), 20 IO (io), 21 IN (in), 22 IN (in), 23 IN (in), 24 VCC (power)

## p1020eg8
designator U?
ECL Latched Programmable Array Logic; Published: 16-Jul-2002; LatestRevisionDate: 17-Jul-2002; LatestRevisionNote: Re-released for DXP Platform.; Publisher: Altium Limited
footprint DIP-24/D31
pins: 1 IN 1 (in), 2 IN 2 (in), 3 IN 12~{/LE} (in), 4 IO 1 (io), 5 IO 2 (io), 6 VCO 1 (power), 7 IO 3 (io), 8 IO 4 (io), 9 IN 3 (in), 10 IN 4 (in), 11 IN 5 (in), 12 VEE (power), 13 IN 6 (in), 14 IN 7 (in), 15 IN 8 (in), 16 IN 9 (in), 17 IO 5 (io), 18 IO 6 (io), 19 VCO 2 (power), 20 IO 7 (io), 21 IO 8 (io), 22 IN 10 (in), 23 IN 11 (in), 24 VCC (power)

## p1020ev8
designator U?
ECL Registered Programmable Array Logic; Published: 16-Jul-2002; LatestRevisionDate: 17-Jul-2002; LatestRevisionNote: Re-released for DXP Platform.; Publisher: Altium Limited
footprint DIP-24/D31
pins: 1 IN 1 (in), 2 IN 2 (in), 3 IN 12/CLK (in), 4 IO 1 (io), 5 IO 2 (io), 6 VCO 1 (power), 7 IO 3 (io), 8 IO 4 (io), 9 IN 3 (in), 10 IN 4 (in), 11 IN 5 (in), 12 VEE (power), 13 IN 6 (in), 14 IN 7 (in), 15 IN 8 (in), 16 IN 9 (in), 17 IO 5 (io), 18 IO 6 (io), 19 VCO 2 (power), 20 IO 7 (io), 21 IO 8 (io), 22 IN 10 (in), 23 IN 11 (in), 24 VCC (power)

## p1020g8
designator U?
Programmable Array Logic ECL PAL Device; Published: 16-Jul-2002; LatestRevisionDate: 17-Jul-2002; LatestRevisionNote: Re-released for DXP Platform.; Publisher: Altium Limited
footprint DIP-24/D31
pins: 1 IN 1 (in), 2 IN 2 (in), 3 IN/~{GATE} (in), 4 IO 1 (io), 5 IO 2 (io), 6 VCO 1 (power), 7 IO 3 (io), 8 IO 4 (io), 9 IN 3 (in), 10 IN 4 (in), 11 IN 5 (in), 12 VEE (power), 13 IN 6 (in), 14 IN 7 (in), 15 IN 8 (in), 16 IN 9 (in), 17 IO 5 (io), 18 IO 6 (io), 19 VCO 2 (power), 20 IO 7 (io), 21 IO 8 (io), 22 IN 10 (in), 23 IN 11 (in), 24 VCC (power)

## p1020p8
designator U?
Combinatorial ECL PAL Device; Published: 16-Jul-2002; LatestRevisionDate: 17-Jul-2002; LatestRevisionNote: Re-released for DXP Platform.; Publisher: Altium Limited
footprint DIP-24/D31
pins: 1 IN (in), 2 IN (in), 3 IN (in), 4 IO (io), 5 IO (io), 6 VCC (power), 7 IO (io), 8 IO (io), 9 IN (in), 10 IN (in), 11 IN (in), 12 VEE (power), 13 IN (in), 14 IN (in), 15 IN (in), 16 IN (in), 17 IO (io), 18 IO (io), 19 VCC (power), 20 IO (io), 21 IO (io), 22 IN (in), 23 IN (in), 24 VCC (power)

## pc224
designator U?
Fast Registered Speed; Published: 16-Jul-2002; LatestRevisionDate: 17-Jul-2002; LatestRevisionNote: Re-released for DXP Platform.; Publisher: Altium Limited
pins: 1 IN/CLK (in), 2 IN (in), 3 IN (in), 4 IN (in), 5 IN (in), 6 IN (in), 7 IN (in), 8 IN (in), 9 IN (in), 10 IN (io), 11 IN (in), 12 GND (power), 13 IN (in), 14 IN (in), 15 IO (io), 16 IO (io), 17 IO (io), 18 IO (io), 19 IO (io), 20 IO (io), 21 IO (io), 22 IO (io), 23 IN (in), 24 VCC (power)

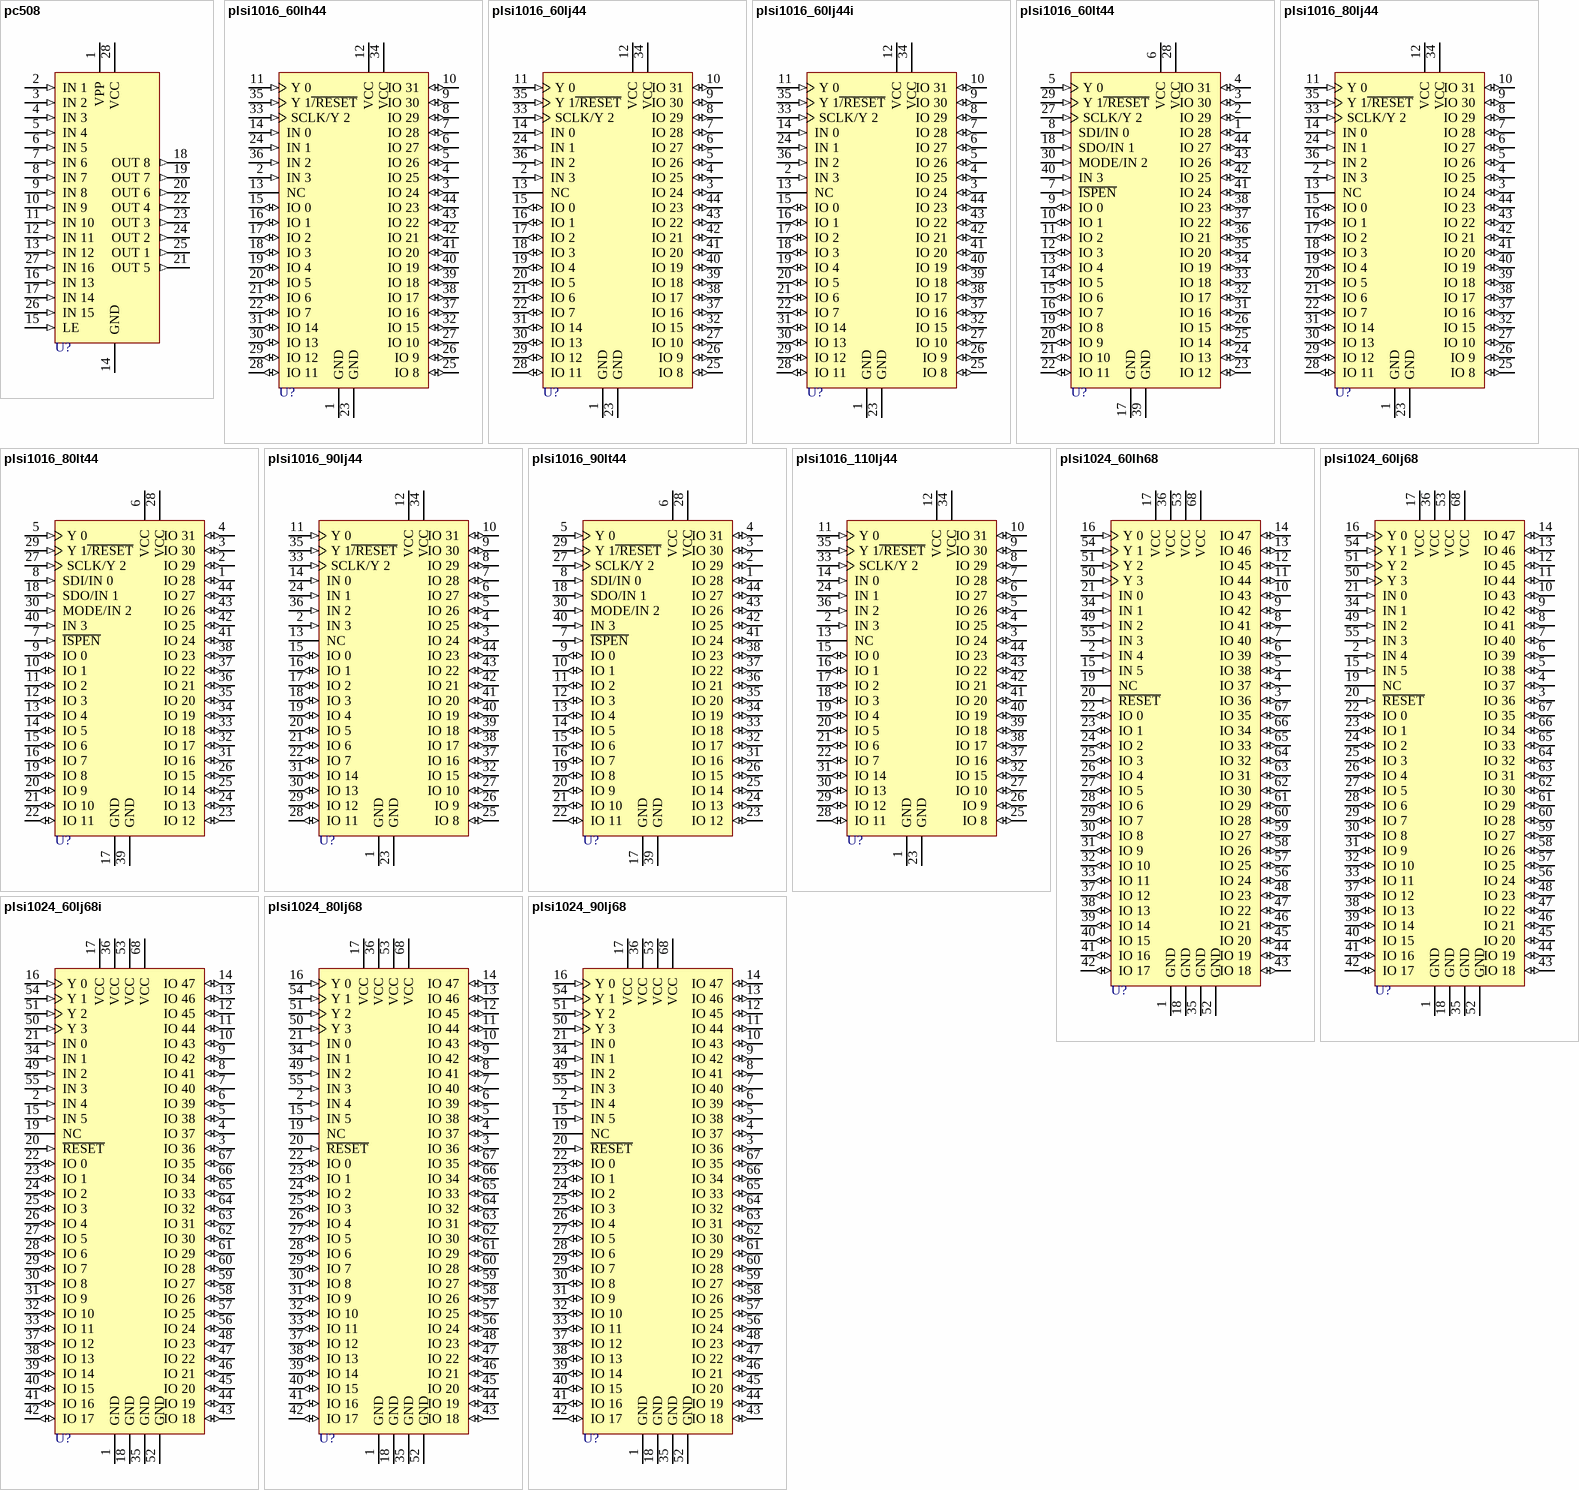
[diagram p13: symbols pc508 to plsi1024_90lj68]

## pc508
designator U?
High-Performance E CMOS PLD; Published: 16-Jul-2002; LatestRevisionDate: 17-Jul-2002; LatestRevisionNote: Re-released for DXP Platform.; Publisher: Altium Limited
pins: 1 VPP (power), 2 IN 1 (in), 3 IN 2 (in), 4 IN 3 (in), 5 IN 4 (in), 6 IN 5 (in), 7 IN 6 (in), 8 IN 7 (in), 9 IN 8 (in), 10 IN 9 (in), 11 IN 10 (in), 12 IN 11 (in), 13 IN 12 (in), 14 GND (power), 15 LE (in), 16 IN 13 (in), 17 IN 14 (in), 18 OUT 8 (out), 19 OUT 7 (out), 20 OUT 6 (out), 21 OUT 5 (out), 22 OUT 4 (out), 23 OUT 3 (out), 24 OUT 2 (out), 25 OUT 1 (out), 26 IN 15 (in), 27 IN 16 (in), 28 VCC (power)

## plsi1016_60lh44
designator U?
In-System Programmable Large Scale Integration High-Density Programmable Logic; Published: 16-Jul-2002; LatestRevisionDate: 17-Jul-2002; LatestRevisionNote: Re-released for DXP Platform.; Publisher: Altium Limited
footprint QCC-J44
pins: 1 GND (power), 2 IN 3 (in), 3 IO 24 (io), 4 IO 25 (io), 5 IO 26 (io), 6 IO 27 (io), 7 IO 28 (io), 8 IO 29 (io), 9 IO 30 (io), 10 IO 31 (io), 11 Y 0 (in), 12 VCC (power), 13 NC, 14 IN 0 (in), 15 IO 0 (io), 16 IO 1 (io), 17 IO 2 (io), 18 IO 3 (io), 19 IO 4 (io), 20 IO 5 (io), 21 IO 6 (io), 22 IO 7 (io), 23 GND (power), 24 IN 1 (in), 25 IO 8 (io), 26 IO 9 (io), 27 IO 10 (io), 28 IO 11 (io), 29 IO 12 (io), 30 IO 13 (io), 31 IO 14 (io), 32 IO 15 (io), 33 SCLK/Y 2 (in), 34 VCC (power), 35 Y 1~{/RESET} (in), 36 IN 2 (in), 37 IO 16 (io), 38 IO 17 (io), 39 IO 18 (io), 40 IO 19 (io), 41 IO 20 (io), 42 IO 21 (io), 43 IO 22 (io), 44 IO 23 (io)

## plsi1016_60lj44
designator U?
In-System Programmable Large Scale Integration High-Density Programmable Logic; Published: 16-Jul-2002; LatestRevisionDate: 17-Jul-2002; LatestRevisionNote: Re-released for DXP Platform.; Publisher: Altium Limited
footprint QCC-J44/Y2
pins: 1 GND (power), 2 IN 3 (in), 3 IO 24 (io), 4 IO 25 (io), 5 IO 26 (io), 6 IO 27 (io), 7 IO 28 (io), 8 IO 29 (io), 9 IO 30 (io), 10 IO 31 (io), 11 Y 0 (in), 12 VCC (power), 13 NC, 14 IN 0 (in), 15 IO 0 (io), 16 IO 1 (io), 17 IO 2 (io), 18 IO 3 (io), 19 IO 4 (io), 20 IO 5 (io), 21 IO 6 (io), 22 IO 7 (io), 23 GND (power), 24 IN 1 (in), 25 IO 8 (io), 26 IO 9 (io), 27 IO 10 (io), 28 IO 11 (io), 29 IO 12 (io), 30 IO 13 (io), 31 IO 14 (io), 32 IO 15 (io), 33 SCLK/Y 2 (in), 34 VCC (power), 35 Y 1~{/RESET} (in), 36 IN 2 (in), 37 IO 16 (io), 38 IO 17 (io), 39 IO 18 (io), 40 IO 19 (io), 41 IO 20 (io), 42 IO 21 (io), 43 IO 22 (io), 44 IO 23 (io)

## plsi1016_60lj44i
designator U?
In-System Programmable Large Scale Integration High-Density Programmable Logic; Published: 16-Jul-2002; LatestRevisionDate: 17-Jul-2002; LatestRevisionNote: Re-released for DXP Platform.; Publisher: Altium Limited
footprint QCC-J44/Y2
pins: 1 GND (power), 2 IN 3 (in), 3 IO 24 (io), 4 IO 25 (io), 5 IO 26 (io), 6 IO 27 (io), 7 IO 28 (io), 8 IO 29 (io), 9 IO 30 (io), 10 IO 31 (io), 11 Y 0 (in), 12 VCC (power), 13 NC, 14 IN 0 (in), 15 IO 0 (io), 16 IO 1 (io), 17 IO 2 (io), 18 IO 3 (io), 19 IO 4 (io), 20 IO 5 (io), 21 IO 6 (io), 22 IO 7 (io), 23 GND (power), 24 IN 1 (in), 25 IO 8 (io), 26 IO 9 (io), 27 IO 10 (io), 28 IO 11 (io), 29 IO 12 (io), 30 IO 13 (io), 31 IO 14 (io), 32 IO 15 (io), 33 SCLK/Y 2 (in), 34 VCC (power), 35 Y 1~{/RESET} (in), 36 IN 2 (in), 37 IO 16 (io), 38 IO 17 (io), 39 IO 18 (io), 40 IO 19 (io), 41 IO 20 (io), 42 IO 21 (io), 43 IO 22 (io), 44 IO 23 (io)

## plsi1016_60lt44
designator U?
In-System Programmable Large Scale Integration High-Density Programmable Logic; Published: 16-Jul-2002; LatestRevisionDate: 17-Jul-2002; LatestRevisionNote: Re-released for DXP Platform.; Publisher: Altium Limited
footprint QFP10x10-G44/X.5N
pins: 1 IO 28 (io), 2 IO 29 (io), 3 IO 30 (io), 4 IO 31 (io), 5 Y 0 (in), 6 VCC (power), 7 ~{ISPEN} (in), 8 SDI/IN 0 (in), 9 IO 0 (io), 10 IO 1 (io), 11 IO 2 (io), 12 IO 3 (io), 13 IO 4 (io), 14 IO 5 (io), 15 IO 6 (io), 16 IO 7 (io), 17 GND (power), 18 SDO/IN 1 (in), 19 IO 8 (io), 20 IO 9 (io), 21 IO 10 (io), 22 IO 11 (io), 23 IO 12 (io), 24 IO 13 (io), 25 IO 14 (io), 26 IO 15 (io), 27 SCLK/Y 2 (in), 28 VCC (power), 29 Y 1~{/RESET} (in), 30 MODE/IN 2 (in), 31 IO 16 (io), 32 IO 17 (io), 33 IO 18 (io), 34 IO 19 (io), 35 IO 20 (io), 36 IO 21 (io), 37 IO 22 (io), 38 IO 23 (io), 39 GND (power), 40 IN 3 (in), 41 IO 24 (io), 42 IO 25 (io), 43 IO 26 (io), 44 IO 27 (io)

## plsi1016_80lj44
designator U?
In-System Programmable Large Scale Integration High-Density Programmable Logic; Published: 16-Jul-2002; LatestRevisionDate: 17-Jul-2002; LatestRevisionNote: Re-released for DXP Platform.; Publisher: Altium Limited
footprint QCC-J44/Y2
pins: 1 GND (power), 2 IN 3 (in), 3 IO 24 (io), 4 IO 25 (io), 5 IO 26 (io), 6 IO 27 (io), 7 IO 28 (io), 8 IO 29 (io), 9 IO 30 (io), 10 IO 31 (io), 11 Y 0 (in), 12 VCC (power), 13 NC, 14 IN 0 (in), 15 IO 0 (io), 16 IO 1 (io), 17 IO 2 (io), 18 IO 3 (io), 19 IO 4 (io), 20 IO 5 (io), 21 IO 6 (io), 22 IO 7 (io), 23 GND (power), 24 IN 1 (in), 25 IO 8 (io), 26 IO 9 (io), 27 IO 10 (io), 28 IO 11 (io), 29 IO 12 (io), 30 IO 13 (io), 31 IO 14 (io), 32 IO 15 (io), 33 SCLK/Y 2 (in), 34 VCC (power), 35 Y 1~{/RESET} (in), 36 IN 2 (in), 37 IO 16 (io), 38 IO 17 (io), 39 IO 18 (io), 40 IO 19 (io), 41 IO 20 (io), 42 IO 21 (io), 43 IO 22 (io), 44 IO 23 (io)

## plsi1016_80lt44
designator U?
In-System Programmable Large Scale Integration High-Density Programmable Logic; Published: 16-Jul-2002; LatestRevisionDate: 17-Jul-2002; LatestRevisionNote: Re-released for DXP Platform.; Publisher: Altium Limited
footprint QFP10x10-G44/X.5N
pins: 1 IO 28 (io), 2 IO 29 (io), 3 IO 30 (io), 4 IO 31 (io), 5 Y 0 (in), 6 VCC (power), 7 ~{ISPEN} (in), 8 SDI/IN 0 (in), 9 IO 0 (io), 10 IO 1 (io), 11 IO 2 (io), 12 IO 3 (io), 13 IO 4 (io), 14 IO 5 (io), 15 IO 6 (io), 16 IO 7 (io), 17 GND (power), 18 SDO/IN 1 (in), 19 IO 8 (io), 20 IO 9 (io), 21 IO 10 (io), 22 IO 11 (io), 23 IO 12 (io), 24 IO 13 (io), 25 IO 14 (io), 26 IO 15 (io), 27 SCLK/Y 2 (in), 28 VCC (power), 29 Y 1~{/RESET} (in), 30 MODE/IN 2 (in), 31 IO 16 (io), 32 IO 17 (io), 33 IO 18 (io), 34 IO 19 (io), 35 IO 20 (io), 36 IO 21 (io), 37 IO 22 (io), 38 IO 23 (io), 39 GND (power), 40 IN 3 (in), 41 IO 24 (io), 42 IO 25 (io), 43 IO 26 (io), 44 IO 27 (io)

## plsi1016_90lj44
designator U?
In-System Programmable Large Scale Integration High-Density Programmable Logic; Published: 16-Jul-2002; LatestRevisionDate: 17-Jul-2002; LatestRevisionNote: Re-released for DXP Platform.; Publisher: Altium Limited
footprint QCC-J44/Y2
pins: 1 GND (power), 2 IN 3 (in), 3 IO 24 (io), 4 IO 25 (io), 5 IO 26 (io), 6 IO 27 (io), 7 IO 28 (io), 8 IO 29 (io), 9 IO 30 (io), 10 IO 31 (io), 11 Y 0 (in), 12 VCC (power), 13 NC, 14 IN 0 (in), 15 IO 0 (io), 16 IO 1 (io), 17 IO 2 (io), 18 IO 3 (io), 19 IO 4 (io), 20 IO 5 (io), 21 IO 6 (io), 22 IO 7 (io), 23 GND (power), 24 IN 1 (in), 25 IO 8 (io), 26 IO 9 (io), 27 IO 10 (io), 28 IO 11 (io), 29 IO 12 (io), 30 IO 13 (io), 31 IO 14 (io), 32 IO 15 (io), 33 SCLK/Y 2 (in), 34 VCC (power), 35 Y 1~{/RESET} (in), 36 IN 2 (in), 37 IO 16 (io), 38 IO 17 (io), 39 IO 18 (io), 40 IO 19 (io), 41 IO 20 (io), 42 IO 21 (io), 43 IO 22 (io), 44 IO 23 (io)

## plsi1016_90lt44
designator U?
In-System Programmable Large Scale Integration High-Density Programmable Logic; Published: 16-Jul-2002; LatestRevisionDate: 17-Jul-2002; LatestRevisionNote: Re-released for DXP Platform.; Publisher: Altium Limited
footprint QFP10x10-G44/X.5N
pins: 1 IO 28 (io), 2 IO 29 (io), 3 IO 30 (io), 4 IO 31 (io), 5 Y 0 (in), 6 VCC (power), 7 ~{ISPEN} (in), 8 SDI/IN 0 (in), 9 IO 0 (io), 10 IO 1 (io), 11 IO 2 (io), 12 IO 3 (io), 13 IO 4 (io), 14 IO 5 (io), 15 IO 6 (io), 16 IO 7 (io), 17 GND (power), 18 SDO/IN 1 (in), 19 IO 8 (io), 20 IO 9 (io), 21 IO 10 (io), 22 IO 11 (io), 23 IO 12 (io), 24 IO 13 (io), 25 IO 14 (io), 26 IO 15 (io), 27 SCLK/Y 2 (in), 28 VCC (power), 29 Y 1~{/RESET} (in), 30 MODE/IN 2 (in), 31 IO 16 (io), 32 IO 17 (io), 33 IO 18 (io), 34 IO 19 (io), 35 IO 20 (io), 36 IO 21 (io), 37 IO 22 (io), 38 IO 23 (io), 39 GND (power), 40 IN 3 (in), 41 IO 24 (io), 42 IO 25 (io), 43 IO 26 (io), 44 IO 27 (io)

## plsi1016_110lj44
designator U?
In-System Programmable Large Scale Integration High-Density Programmable Logic; Published: 16-Jul-2002; LatestRevisionDate: 17-Jul-2002; LatestRevisionNote: Re-released for DXP Platform.; Publisher: Altium Limited
footprint QCC-J44/Y2
pins: 1 GND (power), 2 IN 3 (in), 3 IO 24 (io), 4 IO 25 (io), 5 IO 26 (io), 6 IO 27 (io), 7 IO 28 (io), 8 IO 29 (io), 9 IO 30 (io), 10 IO 31 (io), 11 Y 0 (in), 12 VCC (power), 13 NC, 14 IN 0 (in), 15 IO 0 (io), 16 IO 1 (io), 17 IO 2 (io), 18 IO 3 (io), 19 IO 4 (io), 20 IO 5 (io), 21 IO 6 (io), 22 IO 7 (io), 23 GND (power), 24 IN 1 (in), 25 IO 8 (io), 26 IO 9 (io), 27 IO 10 (io), 28 IO 11 (io), 29 IO 12 (io), 30 IO 13 (io), 31 IO 14 (io), 32 IO 15 (io), 33 SCLK/Y 2 (in), 34 VCC (power), 35 Y 1~{/RESET} (in), 36 IN 2 (in), 37 IO 16 (io), 38 IO 17 (io), 39 IO 18 (io), 40 IO 19 (io), 41 IO 20 (io), 42 IO 21 (io), 43 IO 22 (io), 44 IO 23 (io)

## plsi1024_60lh68
designator U?
Programmable Large Scale Integration High-Density Programmable Logic; Published: 16-Jul-2002; LatestRevisionDate: 17-Jul-2002; LatestRevisionNote: Re-released for DXP Platform.; Publisher: Altium Limited
footprint QCC-J68
pins: 1 GND (power), 2 IN 4 (in), 3 IO 36 (io), 4 IO 37 (io), 5 IO 38 (io), 6 IO 39 (io), 7 IO 40 (io), 8 IO 41 (io), 9 IO 42 (io), 10 IO 43 (io), 11 IO 44 (io), 12 IO 45 (io), 13 IO 46 (io), 14 IO 47 (io), 15 IN 5 (in), 16 Y 0 (in), 17 VCC (power), 18 GND (power), 19 NC, 20 ~{RESET} (in), 21 IN 0 (in), 22 IO 0 (io), 23 IO 1 (io), 24 IO 2 (io), 25 IO 3 (io), 26 IO 4 (io), 27 IO 5 (io), 28 IO 6 (io), 29 IO 7 (io), 30 IO 8 (io), 31 IO 9 (io), 32 IO 10 (io), 33 IO 11 (io), 34 IN 1 (in), 35 GND (power), 36 VCC (power), 37 IO 12 (io), 38 IO 13 (io), 39 IO 14 (io), 40 IO 15 (io), 41 IO 16 (io), 42 IO 17 (io), 43 IO 18 (io), 44 IO 19 (io), 45 IO 20 (io), 46 IO 21 (io), 47 IO 22 (io), 48 IO 23 (io), 49 IN 2 (in), 50 Y 3 (in), 51 Y 2 (in), 52 GND (power), 53 VCC (power), 54 Y 1 (in), 55 IN 3 (in), 56 IO 24 (io), 57 IO 25 (io), 58 IO 26 (io), 59 IO 27 (io), 60 IO 28 (io), 61 IO 29 (io), 62 IO 30 (io), 63 IO 31 (io), 64 IO 32 (io), 65 IO 33 (io), 66 IO 34 (io), 67 IO 35 (io), 68 VCC (power)

## plsi1024_60lj68
designator U?
Programmable Large Scale Integration High-Density Programmable Logic; Published: 16-Jul-2002; LatestRevisionDate: 17-Jul-2002; LatestRevisionNote: Re-released for DXP Platform.; Publisher: Altium Limited
footprint QCC-J68/G22.1
pins: 1 GND (power), 2 IN 4 (in), 3 IO 36 (io), 4 IO 37 (io), 5 IO 38 (io), 6 IO 39 (io), 7 IO 40 (io), 8 IO 41 (io), 9 IO 42 (io), 10 IO 43 (io), 11 IO 44 (io), 12 IO 45 (io), 13 IO 46 (io), 14 IO 47 (io), 15 IN 5 (in), 16 Y 0 (in), 17 VCC (power), 18 GND (power), 19 NC, 20 ~{RESET} (in), 21 IN 0 (in), 22 IO 0 (io), 23 IO 1 (io), 24 IO 2 (io), 25 IO 3 (io), 26 IO 4 (io), 27 IO 5 (io), 28 IO 6 (io), 29 IO 7 (io), 30 IO 8 (io), 31 IO 9 (io), 32 IO 10 (io), 33 IO 11 (io), 34 IN 1 (in), 35 GND (power), 36 VCC (power), 37 IO 12 (io), 38 IO 13 (io), 39 IO 14 (io), 40 IO 15 (io), 41 IO 16 (io), 42 IO 17 (io), 43 IO 18 (io), 44 IO 19 (io), 45 IO 20 (io), 46 IO 21 (io), 47 IO 22 (io), 48 IO 23 (io), 49 IN 2 (in), 50 Y 3 (in), 51 Y 2 (in), 52 GND (power), 53 VCC (power), 54 Y 1 (in), 55 IN 3 (in), 56 IO 24 (io), 57 IO 25 (io), 58 IO 26 (io), 59 IO 27 (io), 60 IO 28 (io), 61 IO 29 (io), 62 IO 30 (io), 63 IO 31 (io), 64 IO 32 (io), 65 IO 33 (io), 66 IO 34 (io), 67 IO 35 (io), 68 VCC (power)

## plsi1024_60lj68i
designator U?
Programmable Large Scale Integration High-Density Programmable Logic; Published: 16-Jul-2002; LatestRevisionDate: 17-Jul-2002; LatestRevisionNote: Re-released for DXP Platform.; Publisher: Altium Limited
footprint QCC-J68/G22.1
pins: 1 GND (power), 2 IN 4 (in), 3 IO 36 (io), 4 IO 37 (io), 5 IO 38 (io), 6 IO 39 (io), 7 IO 40 (io), 8 IO 41 (io), 9 IO 42 (io), 10 IO 43 (io), 11 IO 44 (io), 12 IO 45 (io), 13 IO 46 (io), 14 IO 47 (io), 15 IN 5 (in), 16 Y 0 (in), 17 VCC (power), 18 GND (power), 19 NC, 20 ~{RESET} (in), 21 IN 0 (in), 22 IO 0 (io), 23 IO 1 (io), 24 IO 2 (io), 25 IO 3 (io), 26 IO 4 (io), 27 IO 5 (io), 28 IO 6 (io), 29 IO 7 (io), 30 IO 8 (io), 31 IO 9 (io), 32 IO 10 (io), 33 IO 11 (io), 34 IN 1 (in), 35 GND (power), 36 VCC (power), 37 IO 12 (io), 38 IO 13 (io), 39 IO 14 (io), 40 IO 15 (io), 41 IO 16 (io), 42 IO 17 (io), 43 IO 18 (io), 44 IO 19 (io), 45 IO 20 (io), 46 IO 21 (io), 47 IO 22 (io), 48 IO 23 (io), 49 IN 2 (in), 50 Y 3 (in), 51 Y 2 (in), 52 GND (power), 53 VCC (power), 54 Y 1 (in), 55 IN 3 (in), 56 IO 24 (io), 57 IO 25 (io), 58 IO 26 (io), 59 IO 27 (io), 60 IO 28 (io), 61 IO 29 (io), 62 IO 30 (io), 63 IO 31 (io), 64 IO 32 (io), 65 IO 33 (io), 66 IO 34 (io), 67 IO 35 (io), 68 VCC (power)

## plsi1024_80lj68
designator U?
Programmable Large Scale Integration High-Density Programmable Logic; Published: 16-Jul-2002; LatestRevisionDate: 17-Jul-2002; LatestRevisionNote: Re-released for DXP Platform.; Publisher: Altium Limited
footprint QCC-J68/G22.1
pins: 1 GND (power), 2 IN 4 (in), 3 IO 36 (io), 4 IO 37 (io), 5 IO 38 (io), 6 IO 39 (io), 7 IO 40 (io), 8 IO 41 (io), 9 IO 42 (io), 10 IO 43 (io), 11 IO 44 (io), 12 IO 45 (io), 13 IO 46 (io), 14 IO 47 (io), 15 IN 5 (in), 16 Y 0 (in), 17 VCC (power), 18 GND (power), 19 NC, 20 ~{RESET} (in), 21 IN 0 (in), 22 IO 0 (io), 23 IO 1 (io), 24 IO 2 (io), 25 IO 3 (io), 26 IO 4 (io), 27 IO 5 (io), 28 IO 6 (io), 29 IO 7 (io), 30 IO 8 (io), 31 IO 9 (io), 32 IO 10 (io), 33 IO 11 (io), 34 IN 1 (in), 35 GND (power), 36 VCC (power), 37 IO 12 (io), 38 IO 13 (io), 39 IO 14 (io), 40 IO 15 (io), 41 IO 16 (io), 42 IO 17 (io), 43 IO 18 (io), 44 IO 19 (io), 45 IO 20 (io), 46 IO 21 (io), 47 IO 22 (io), 48 IO 23 (io), 49 IN 2 (in), 50 Y 3 (in), 51 Y 2 (in), 52 GND (power), 53 VCC (power), 54 Y 1 (in), 55 IN 3 (in), 56 IO 24 (io), 57 IO 25 (io), 58 IO 26 (io), 59 IO 27 (io), 60 IO 28 (io), 61 IO 29 (io), 62 IO 30 (io), 63 IO 31 (io), 64 IO 32 (io), 65 IO 33 (io), 66 IO 34 (io), 67 IO 35 (io), 68 VCC (power)

## plsi1024_90lj68
designator U?
Programmable Large Scale Integration High-Density Programmable Logic; Published: 16-Jul-2002; LatestRevisionDate: 17-Jul-2002; LatestRevisionNote: Re-released for DXP Platform.; Publisher: Altium Limited
footprint QCC-J68/G22.1
pins: 1 GND (power), 2 IN 4 (in), 3 IO 36 (io), 4 IO 37 (io), 5 IO 38 (io), 6 IO 39 (io), 7 IO 40 (io), 8 IO 41 (io), 9 IO 42 (io), 10 IO 43 (io), 11 IO 44 (io), 12 IO 45 (io), 13 IO 46 (io), 14 IO 47 (io), 15 IN 5 (in), 16 Y 0 (in), 17 VCC (power), 18 GND (power), 19 NC, 20 ~{RESET} (in), 21 IN 0 (in), 22 IO 0 (io), 23 IO 1 (io), 24 IO 2 (io), 25 IO 3 (io), 26 IO 4 (io), 27 IO 5 (io), 28 IO 6 (io), 29 IO 7 (io), 30 IO 8 (io), 31 IO 9 (io), 32 IO 10 (io), 33 IO 11 (io), 34 IN 1 (in), 35 GND (power), 36 VCC (power), 37 IO 12 (io), 38 IO 13 (io), 39 IO 14 (io), 40 IO 15 (io), 41 IO 16 (io), 42 IO 17 (io), 43 IO 18 (io), 44 IO 19 (io), 45 IO 20 (io), 46 IO 21 (io), 47 IO 22 (io), 48 IO 23 (io), 49 IN 2 (in), 50 Y 3 (in), 51 Y 2 (in), 52 GND (power), 53 VCC (power), 54 Y 1 (in), 55 IN 3 (in), 56 IO 24 (io), 57 IO 25 (io), 58 IO 26 (io), 59 IO 27 (io), 60 IO 28 (io), 61 IO 29 (io), 62 IO 30 (io), 63 IO 31 (io), 64 IO 32 (io), 65 IO 33 (io), 66 IO 34 (io), 67 IO 35 (io), 68 VCC (power)

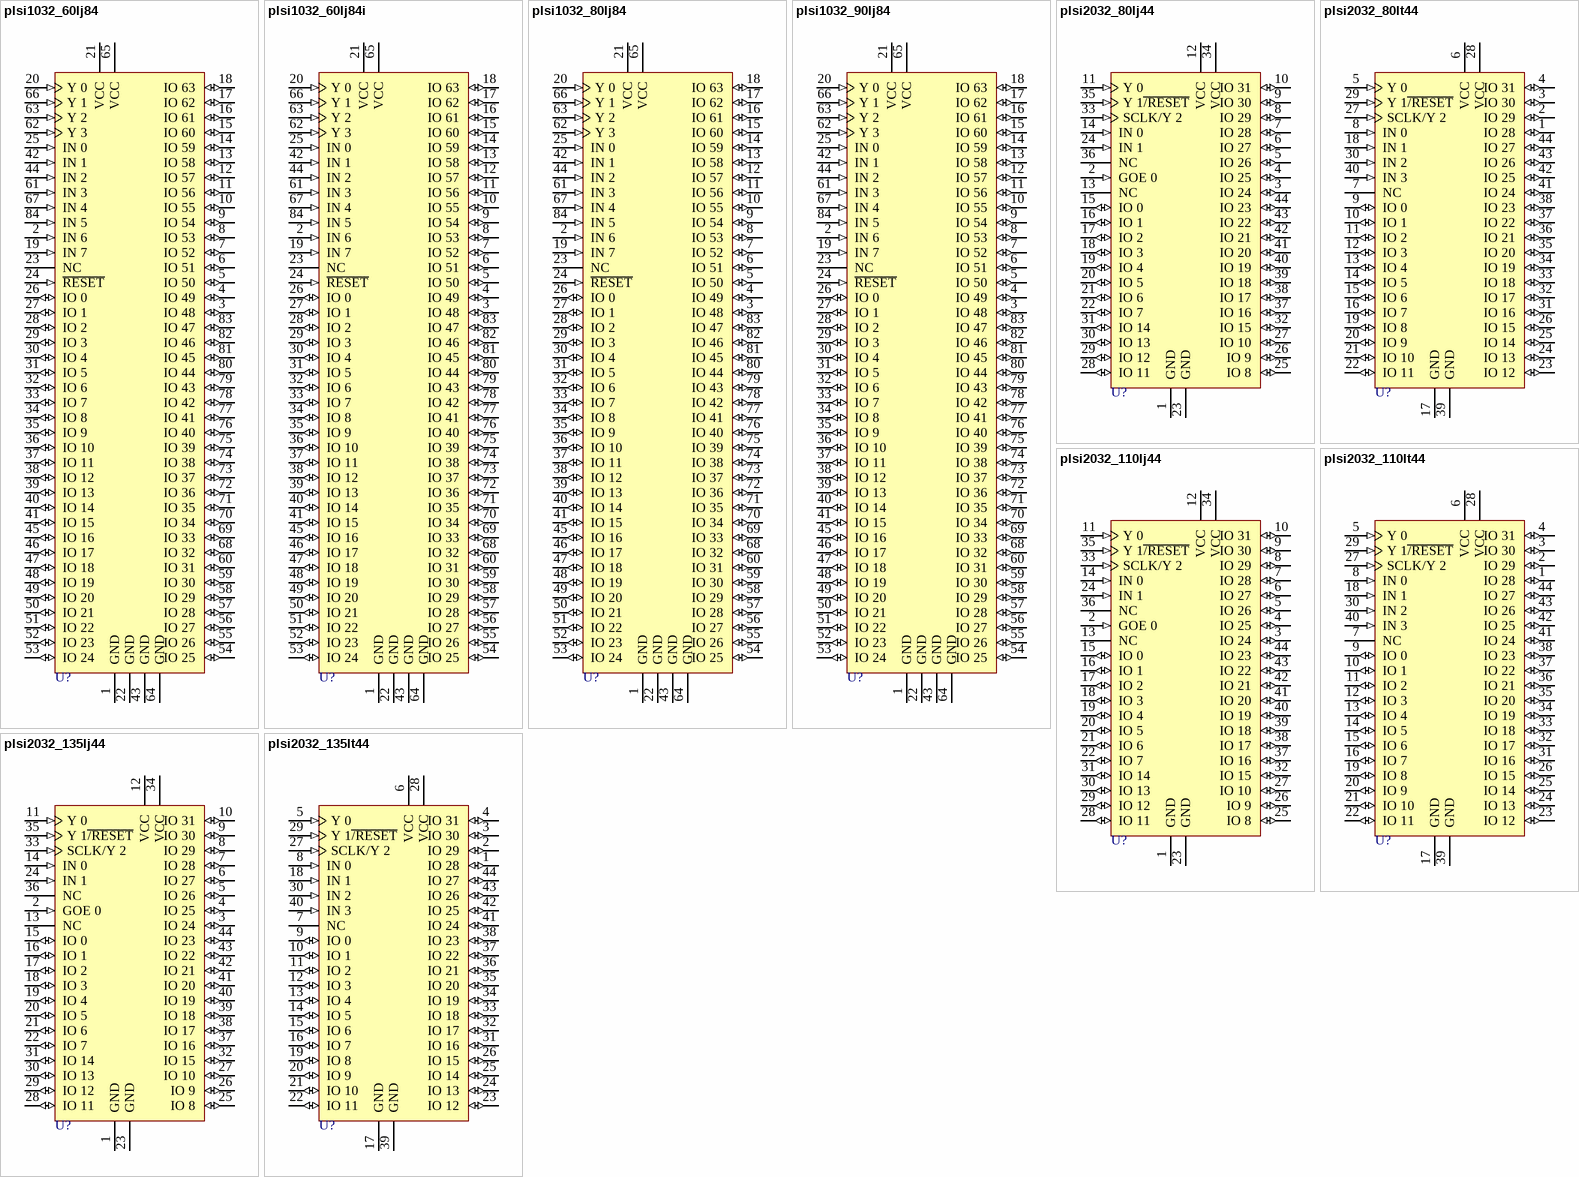
[diagram p14: symbols plsi1032_60lj84 to plsi2032_135lt44]

## plsi1032_60lj84
designator U?
Programmable Large Scale Integration High-Density Programmable Logic; Published: 16-Jul-2002; LatestRevisionDate: 17-Jul-2002; LatestRevisionNote: Re-released for DXP Platform.; Publisher: Altium Limited
footprint QCC-J84
pins: 1 GND (power), 2 IN 6 (in), 3 IO 48 (io), 4 IO 49 (io), 5 IO 50 (io), 6 IO 51 (io), 7 IO 52 (io), 8 IO 53 (io), 9 IO 54 (io), 10 IO 55 (io), 11 IO 56 (io), 12 IO 57 (io), 13 IO 58 (io), 14 IO 59 (io), 15 IO 60 (io), 16 IO 61 (io), 17 IO 62 (io), 18 IO 63 (io), 19 IN 7 (in), 20 Y 0 (in), 21 VCC (power), 22 GND (power), 23 NC, 24 ~{RESET} (in), 25 IN 0 (in), 26 IO 0 (io), 27 IO 1 (io), 28 IO 2 (io), 29 IO 3 (io), 30 IO 4 (io), 31 IO 5 (io), 32 IO 6 (io), 33 IO 7 (io), 34 IO 8 (io), 35 IO 9 (io), 36 IO 10 (io), 37 IO 11 (io), 38 IO 12 (io), 39 IO 13 (io), 40 IO 14 (io), 41 IO 15 (io), 42 IN 1 (in), 43 GND (power), 44 IN 2 (in), 45 IO 16 (io), 46 IO 17 (io), 47 IO 18 (io), 48 IO 19 (io), 49 IO 20 (io), 50 IO 21 (io), 51 IO 22 (io), 52 IO 23 (io), 53 IO 24 (io), 54 IO 25 (io), 55 IO 26 (io), 56 IO 27 (io), 57 IO 28 (io), 58 IO 29 (io), 59 IO 30 (io), 60 IO 31 (io), 61 IN 3 (in), 62 Y 3 (in), 63 Y 2 (in), 64 GND (power), 65 VCC (power), 66 Y 1 (in), 67 IN 4 (in), 68 IO 32 (io), 69 IO 33 (io), 70 IO 34 (io), 71 IO 35 (io), 72 IO 36 (io), 73 IO 37 (io), 74 IO 38 (io), 75 IO 39 (io), 76 IO 40 (io), 77 IO 41 (io), 78 IO 42 (io), 79 IO 43 (io), 80 IO 44 (io), 81 IO 45 (io), 82 IO 46 (io), 83 IO 47 (io), 84 IN 5 (in)